# Altium schematic symbol library dungvh03-CERN_Connectors.SchLib: 576 symbols (part 4 of 8)
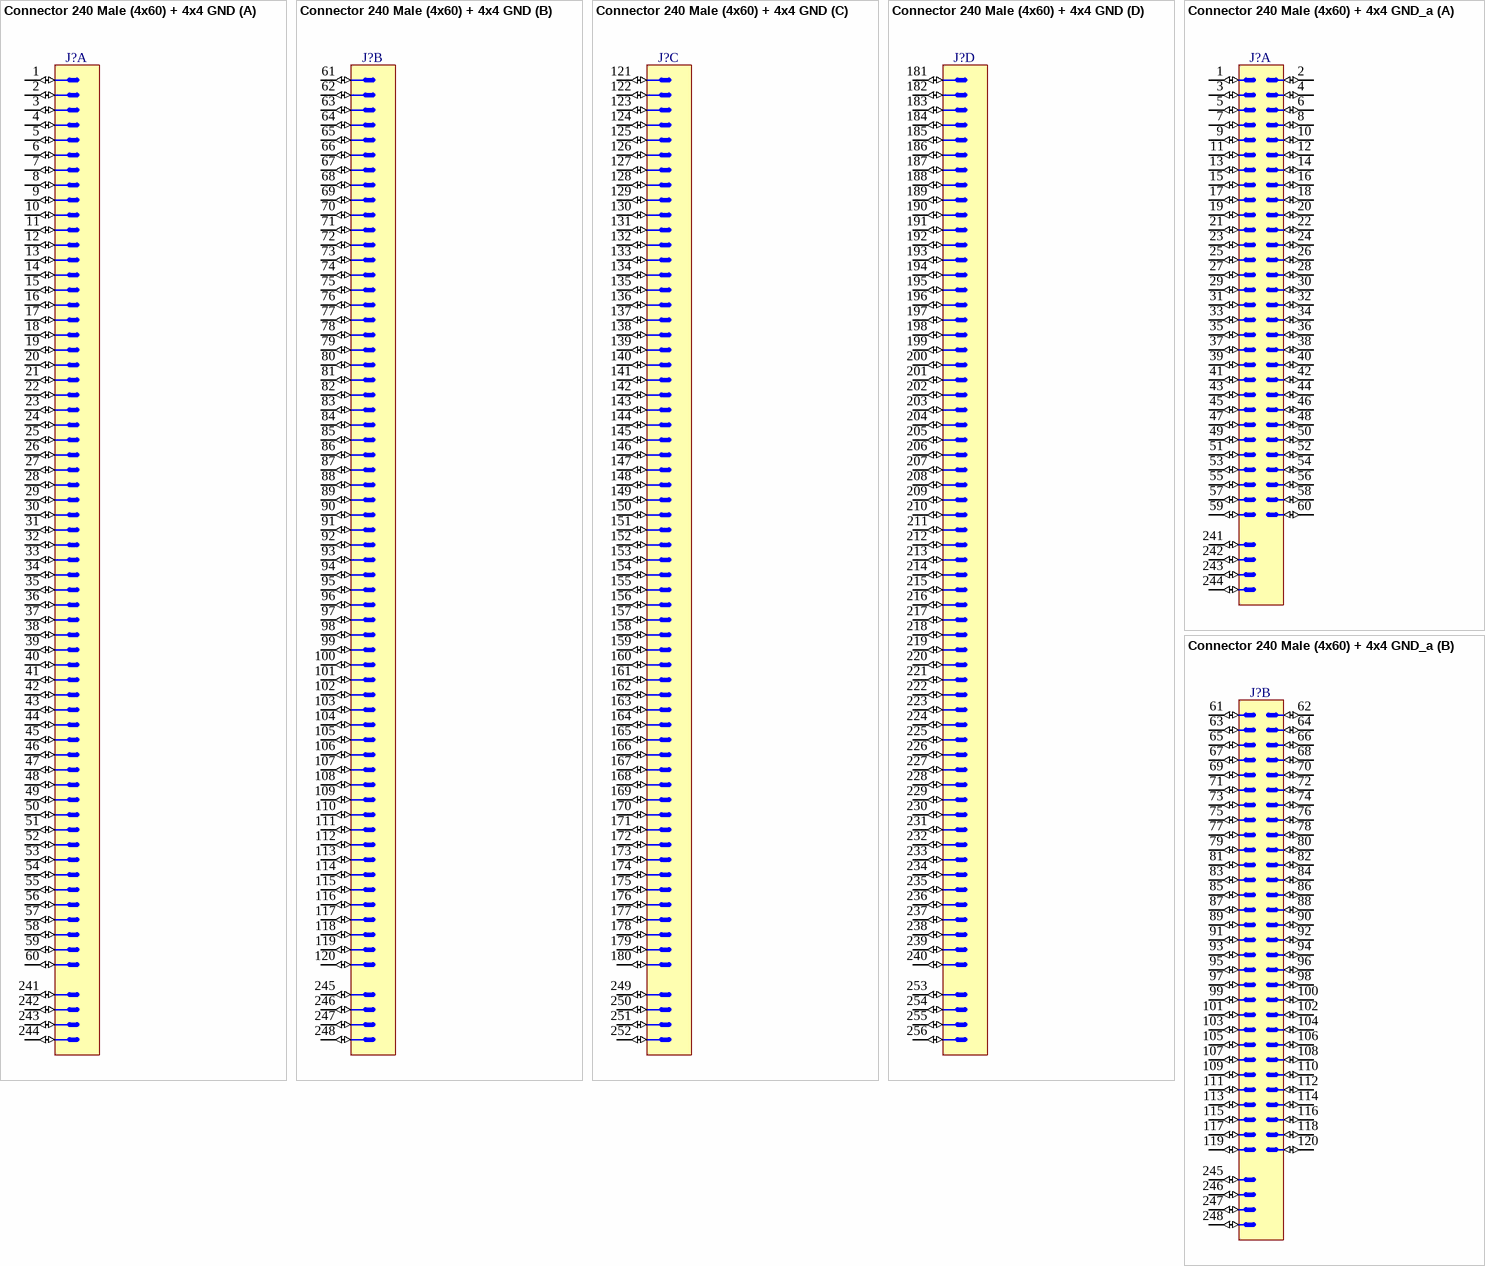
[diagram p78: symbols Connector 240 Male (4x60) + 4x4 GND to Connector 240 Male (4x60) + 4x4 GND_a]

## Connector 240 Male (4x60) + 4x4 GND
designator J?
Connector 240 Male (4x60) + 4x4 GND
part A pins: 1 (io), 2 (io), 3 (io), 4 (io), 5 (io), 6 (io), 7 (io), 8 (io), 9 (io), 10 (io), 11 (io), 12 (io), 13 (io), 14 (io), 15 (io), 16 (io), 17 (io), 18 (io), 19 (io), 20 (io), 21 (io), 22 (io), 23 (io), 24 (io), 25 (io), 26 (io), 27 (io), 28 (io), 29 (io), 30 (io), 31 (io), 32 (io), 33 (io), 34 (io), 35 (io), 36 (io), 37 (io), 38 (io), 39 (io), 40 (io), 41 (io), 42 (io), 43 (io), 44 (io), 45 (io), 46 (io), 47 (io), 48 (io), 49 (io), 50 (io), 51 (io), 52 (io), 53 (io), 54 (io), 55 (io), 56 (io), 57 (io), 58 (io), 59 (io), 60 (io), 241 (io), 242 (io), 243 (io), 244 (io)
part B pins: 61 (io), 62 (io), 63 (io), 64 (io), 65 (io), 66 (io), 67 (io), 68 (io), 69 (io), 70 (io), 71 (io), 72 (io), 73 (io), 74 (io), 75 (io), 76 (io), 77 (io), 78 (io), 79 (io), 80 (io), 81 (io), 82 (io), 83 (io), 84 (io), 85 (io), 86 (io), 87 (io), 88 (io), 89 (io), 90 (io), 91 (io), 92 (io), 93 (io), 94 (io), 95 (io), 96 (io), 97 (io), 98 (io), 99 (io), 100 (io), 101 (io), 102 (io), 103 (io), 104 (io), 105 (io), 106 (io), 107 (io), 108 (io), 109 (io), 110 (io), 111 (io), 112 (io), 113 (io), 114 (io), 115 (io), 116 (io), 117 (io), 118 (io), 119 (io), 120 (io), 245 (io), 246 (io), 247 (io), 248 (io)
part C pins: 121 (io), 122 (io), 123 (io), 124 (io), 125 (io), 126 (io), 127 (io), 128 (io), 129 (io), 130 (io), 131 (io), 132 (io), 133 (io), 134 (io), 135 (io), 136 (io), 137 (io), 138 (io), 139 (io), 140 (io), 141 (io), 142 (io), 143 (io), 144 (io), 145 (io), 146 (io), 147 (io), 148 (io), 149 (io), 150 (io), 151 (io), 152 (io), 153 (io), 154 (io), 155 (io), 156 (io), 157 (io), 158 (io), 159 (io), 160 (io), 161 (io), 162 (io), 163 (io), 164 (io), 165 (io), 166 (io), 167 (io), 168 (io), 169 (io), 170 (io), 171 (io), 172 (io), 173 (io), 174 (io), 175 (io), 176 (io), 177 (io), 178 (io), 179 (io), 180 (io), 249 (io), 250 (io), 251 (io), 252 (io)
part D pins: 181 (io), 182 (io), 183 (io), 184 (io), 185 (io), 186 (io), 187 (io), 188 (io), 189 (io), 190 (io), 191 (io), 192 (io), 193 (io), 194 (io), 195 (io), 196 (io), 197 (io), 198 (io), 199 (io), 200 (io), 201 (io), 202 (io), 203 (io), 204 (io), 205 (io), 206 (io), 207 (io), 208 (io), 209 (io), 210 (io), 211 (io), 212 (io), 213 (io), 214 (io), 215 (io), 216 (io), 217 (io), 218 (io), 219 (io), 220 (io), 221 (io), 222 (io), 223 (io), 224 (io), 225 (io), 226 (io), 227 (io), 228 (io), 229 (io), 230 (io), 231 (io), 232 (io), 233 (io), 234 (io), 235 (io), 236 (io), 237 (io), 238 (io), 239 (io), 240 (io), 253 (io), 254 (io), 255 (io), 256 (io)

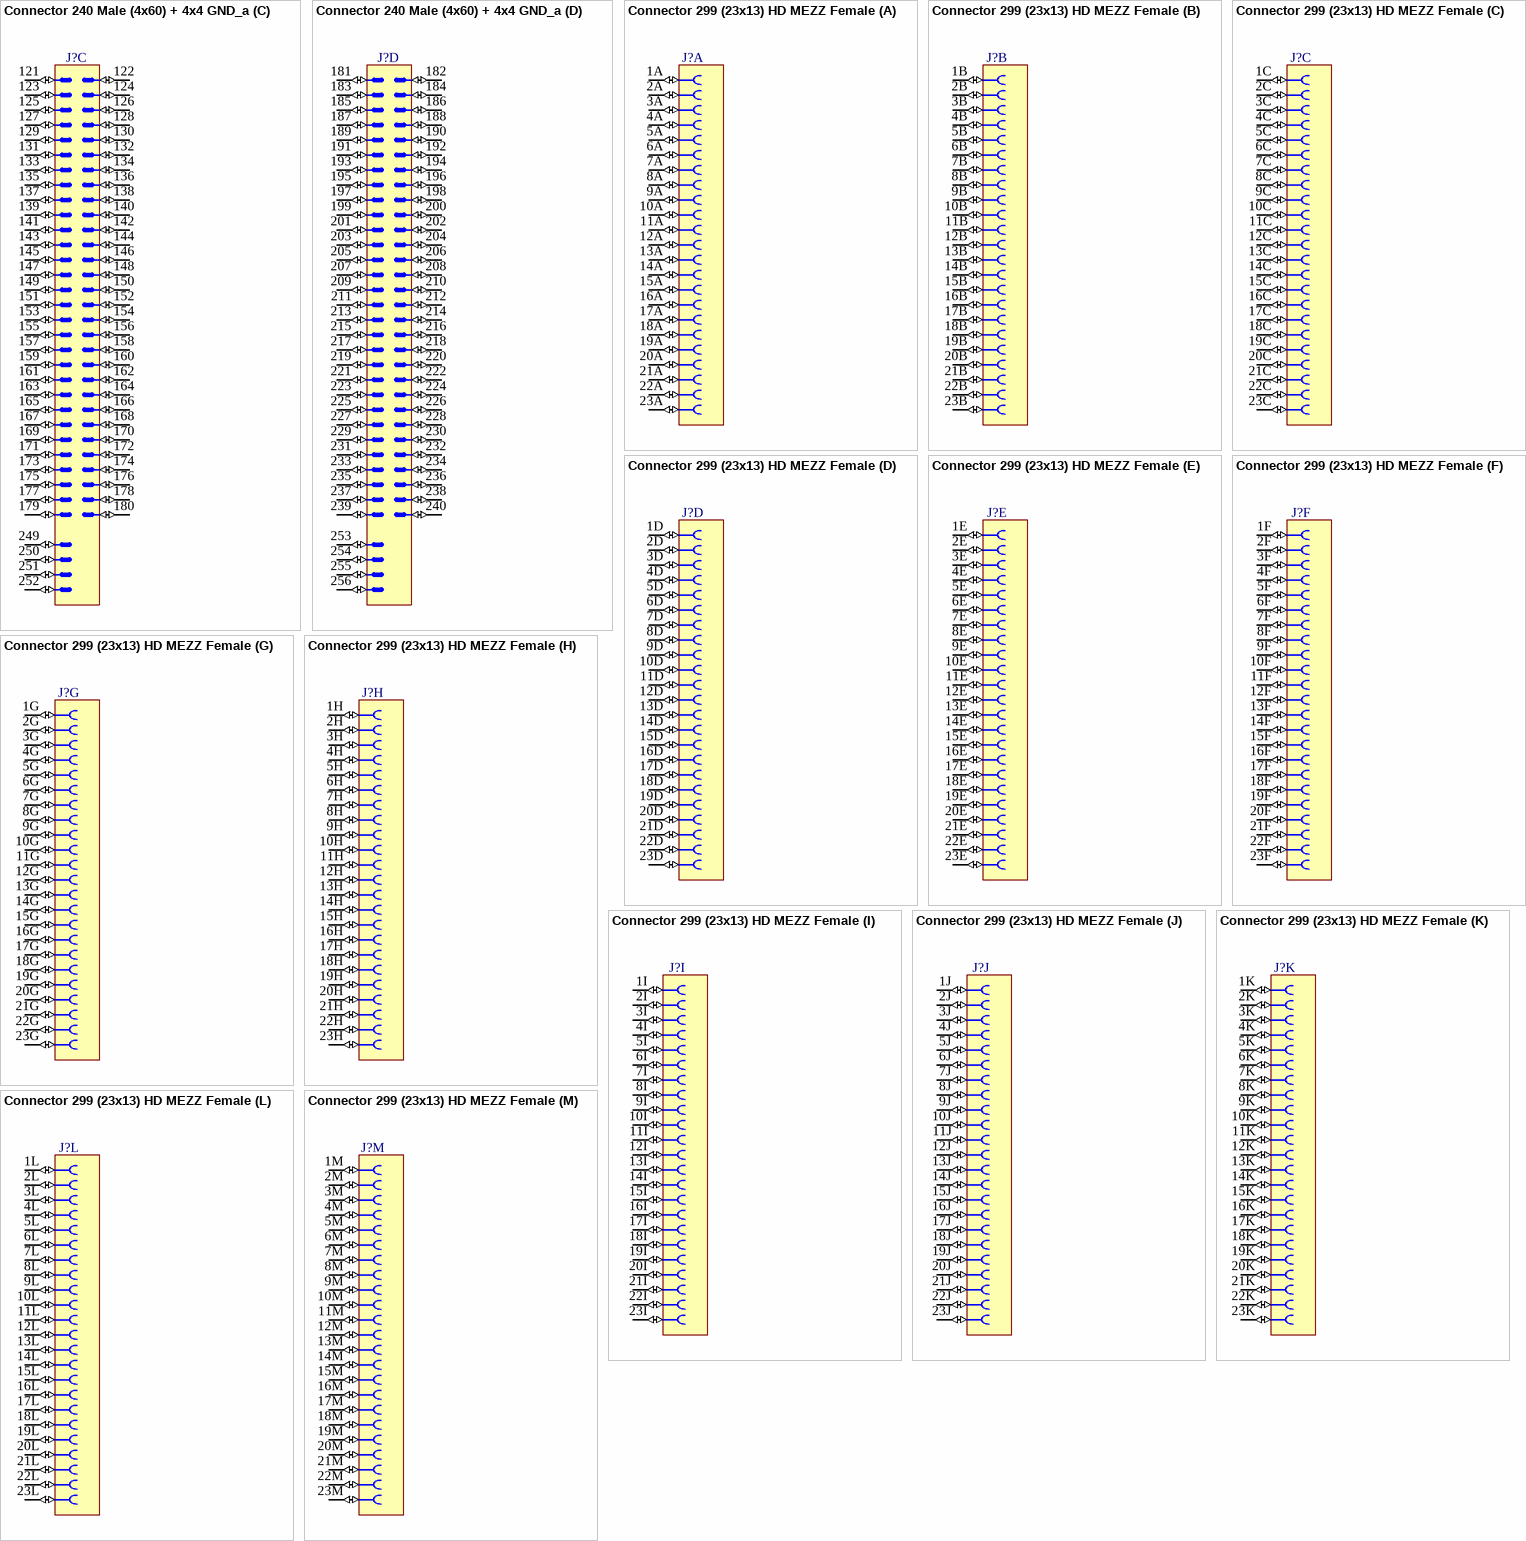
[diagram p33: symbols Connector 240 Male (4x60) + 4x4 GND_a to Connector 299 (23x13) HD MEZZ Female]

## Connector 240 Male (4x60) + 4x4 GND_a
designator J?
Connector 240 Male (4x60) + 4x4 GND
part A pins: 1 (io), 2 (io), 3 (io), 4 (io), 5 (io), 6 (io), 7 (io), 8 (io), 9 (io), 10 (io), 11 (io), 12 (io), 13 (io), 14 (io), 15 (io), 16 (io), 17 (io), 18 (io), 19 (io), 20 (io), 21 (io), 22 (io), 23 (io), 24 (io), 25 (io), 26 (io), 27 (io), 28 (io), 29 (io), 30 (io), 31 (io), 32 (io), 33 (io), 34 (io), 35 (io), 36 (io), 37 (io), 38 (io), 39 (io), 40 (io), 41 (io), 42 (io), 43 (io), 44 (io), 45 (io), 46 (io), 47 (io), 48 (io), 49 (io), 50 (io), 51 (io), 52 (io), 53 (io), 54 (io), 55 (io), 56 (io), 57 (io), 58 (io), 59 (io), 60 (io), 241 (io), 242 (io), 243 (io), 244 (io)
part B pins: 61 (io), 62 (io), 63 (io), 64 (io), 65 (io), 66 (io), 67 (io), 68 (io), 69 (io), 70 (io), 71 (io), 72 (io), 73 (io), 74 (io), 75 (io), 76 (io), 77 (io), 78 (io), 79 (io), 80 (io), 81 (io), 82 (io), 83 (io), 84 (io), 85 (io), 86 (io), 87 (io), 88 (io), 89 (io), 90 (io), 91 (io), 92 (io), 93 (io), 94 (io), 95 (io), 96 (io), 97 (io), 98 (io), 99 (io), 100 (io), 101 (io), 102 (io), 103 (io), 104 (io), 105 (io), 106 (io), 107 (io), 108 (io), 109 (io), 110 (io), 111 (io), 112 (io), 113 (io), 114 (io), 115 (io), 116 (io), 117 (io), 118 (io), 119 (io), 120 (io), 245 (io), 246 (io), 247 (io), 248 (io)
part C pins: 121 (io), 122 (io), 123 (io), 124 (io), 125 (io), 126 (io), 127 (io), 128 (io), 129 (io), 130 (io), 131 (io), 132 (io), 133 (io), 134 (io), 135 (io), 136 (io), 137 (io), 138 (io), 139 (io), 140 (io), 141 (io), 142 (io), 143 (io), 144 (io), 145 (io), 146 (io), 147 (io), 148 (io), 149 (io), 150 (io), 151 (io), 152 (io), 153 (io), 154 (io), 155 (io), 156 (io), 157 (io), 158 (io), 159 (io), 160 (io), 161 (io), 162 (io), 163 (io), 164 (io), 165 (io), 166 (io), 167 (io), 168 (io), 169 (io), 170 (io), 171 (io), 172 (io), 173 (io), 174 (io), 175 (io), 176 (io), 177 (io), 178 (io), 179 (io), 180 (io), 249 (io), 250 (io), 251 (io), 252 (io)
part D pins: 181 (io), 182 (io), 183 (io), 184 (io), 185 (io), 186 (io), 187 (io), 188 (io), 189 (io), 190 (io), 191 (io), 192 (io), 193 (io), 194 (io), 195 (io), 196 (io), 197 (io), 198 (io), 199 (io), 200 (io), 201 (io), 202 (io), 203 (io), 204 (io), 205 (io), 206 (io), 207 (io), 208 (io), 209 (io), 210 (io), 211 (io), 212 (io), 213 (io), 214 (io), 215 (io), 216 (io), 217 (io), 218 (io), 219 (io), 220 (io), 221 (io), 222 (io), 223 (io), 224 (io), 225 (io), 226 (io), 227 (io), 228 (io), 229 (io), 230 (io), 231 (io), 232 (io), 233 (io), 234 (io), 235 (io), 236 (io), 237 (io), 238 (io), 239 (io), 240 (io), 253 (io), 254 (io), 255 (io), 256 (io)

## Connector 299 (23x13) HD MEZZ Female
designator J?
299 Contacts (23 Row  x 13 Column (A to M) HD MEZZ Female Connector
part A pins: 1A (io), 2A (io), 3A (io), 4A (io), 5A (io), 6A (io), 7A (io), 8A (io), 9A (io), 10A (io), 11A (io), 12A (io), 13A (io), 14A (io), 15A (io), 16A (io), 17A (io), 18A (io), 19A (io), 20A (io), 21A (io), 22A (io), 23A (io)
part B pins: 1B (io), 2B (io), 3B (io), 4B (io), 5B (io), 6B (io), 7B (io), 8B (io), 9B (io), 10B (io), 11B (io), 12B (io), 13B (io), 14B (io), 15B (io), 16B (io), 17B (io), 18B (io), 19B (io), 20B (io), 21B (io), 22B (io), 23B (io)
part C pins: 1C (io), 2C (io), 3C (io), 4C (io), 5C (io), 6C (io), 7C (io), 8C (io), 9C (io), 10C (io), 11C (io), 12C (io), 13C (io), 14C (io), 15C (io), 16C (io), 17C (io), 18C (io), 19C (io), 20C (io), 21C (io), 22C (io), 23C (io)
part D pins: 1D (io), 2D (io), 3D (io), 4D (io), 5D (io), 6D (io), 7D (io), 8D (io), 9D (io), 10D (io), 11D (io), 12D (io), 13D (io), 14D (io), 15D (io), 16D (io), 17D (io), 18D (io), 19D (io), 20D (io), 21D (io), 22D (io), 23D (io)
part E pins: 1E (io), 2E (io), 3E (io), 4E (io), 5E (io), 6E (io), 7E (io), 8E (io), 9E (io), 10E (io), 11E (io), 12E (io), 13E (io), 14E (io), 15E (io), 16E (io), 17E (io), 18E (io), 19E (io), 20E (io), 21E (io), 22E (io), 23E (io)
part F pins: 1F (io), 2F (io), 3F (io), 4F (io), 5F (io), 6F (io), 7F (io), 8F (io), 9F (io), 10F (io), 11F (io), 12F (io), 13F (io), 14F (io), 15F (io), 16F (io), 17F (io), 18F (io), 19F (io), 20F (io), 21F (io), 22F (io), 23F (io)
part G pins: 1G (io), 2G (io), 3G (io), 4G (io), 5G (io), 6G (io), 7G (io), 8G (io), 9G (io), 10G (io), 11G (io), 12G (io), 13G (io), 14G (io), 15G (io), 16G (io), 17G (io), 18G (io), 19G (io), 20G (io), 21G (io), 22G (io), 23G (io)
part H pins: 1H (io), 2H (io), 3H (io), 4H (io), 5H (io), 6H (io), 7H (io), 8H (io), 9H (io), 10H (io), 11H (io), 12H (io), 13H (io), 14H (io), 15H (io), 16H (io), 17H (io), 18H (io), 19H (io), 20H (io), 21H (io), 22H (io), 23H (io)
part I pins: 1I (io), 2I (io), 3I (io), 4I (io), 5I (io), 6I (io), 7I (io), 8I (io), 9I (io), 10I (io), 11I (io), 12I (io), 13I (io), 14I (io), 15I (io), 16I (io), 17I (io), 18I (io), 19I (io), 20I (io), 21I (io), 22I (io), 23I (io)
part J pins: 1J (io), 2J (io), 3J (io), 4J (io), 5J (io), 6J (io), 7J (io), 8J (io), 9J (io), 10J (io), 11J (io), 12J (io), 13J (io), 14J (io), 15J (io), 16J (io), 17J (io), 18J (io), 19J (io), 20J (io), 21J (io), 22J (io), 23J (io)
part K pins: 1K (io), 2K (io), 3K (io), 4K (io), 5K (io), 6K (io), 7K (io), 8K (io), 9K (io), 10K (io), 11K (io), 12K (io), 13K (io), 14K (io), 15K (io), 16K (io), 17K (io), 18K (io), 19K (io), 20K (io), 21K (io), 22K (io), 23K (io)
part L pins: 1L (io), 2L (io), 3L (io), 4L (io), 5L (io), 6L (io), 7L (io), 8L (io), 9L (io), 10L (io), 11L (io), 12L (io), 13L (io), 14L (io), 15L (io), 16L (io), 17L (io), 18L (io), 19L (io), 20L (io), 21L (io), 22L (io), 23L (io)
part M pins: 1M (io), 2M (io), 3M (io), 4M (io), 5M (io), 6M (io), 7M (io), 8M (io), 9M (io), 10M (io), 11M (io), 12M (io), 13M (io), 14M (io), 15M (io), 16M (io), 17M (io), 18M (io), 19M (io), 20M (io), 21M (io), 22M (io), 23M (io)

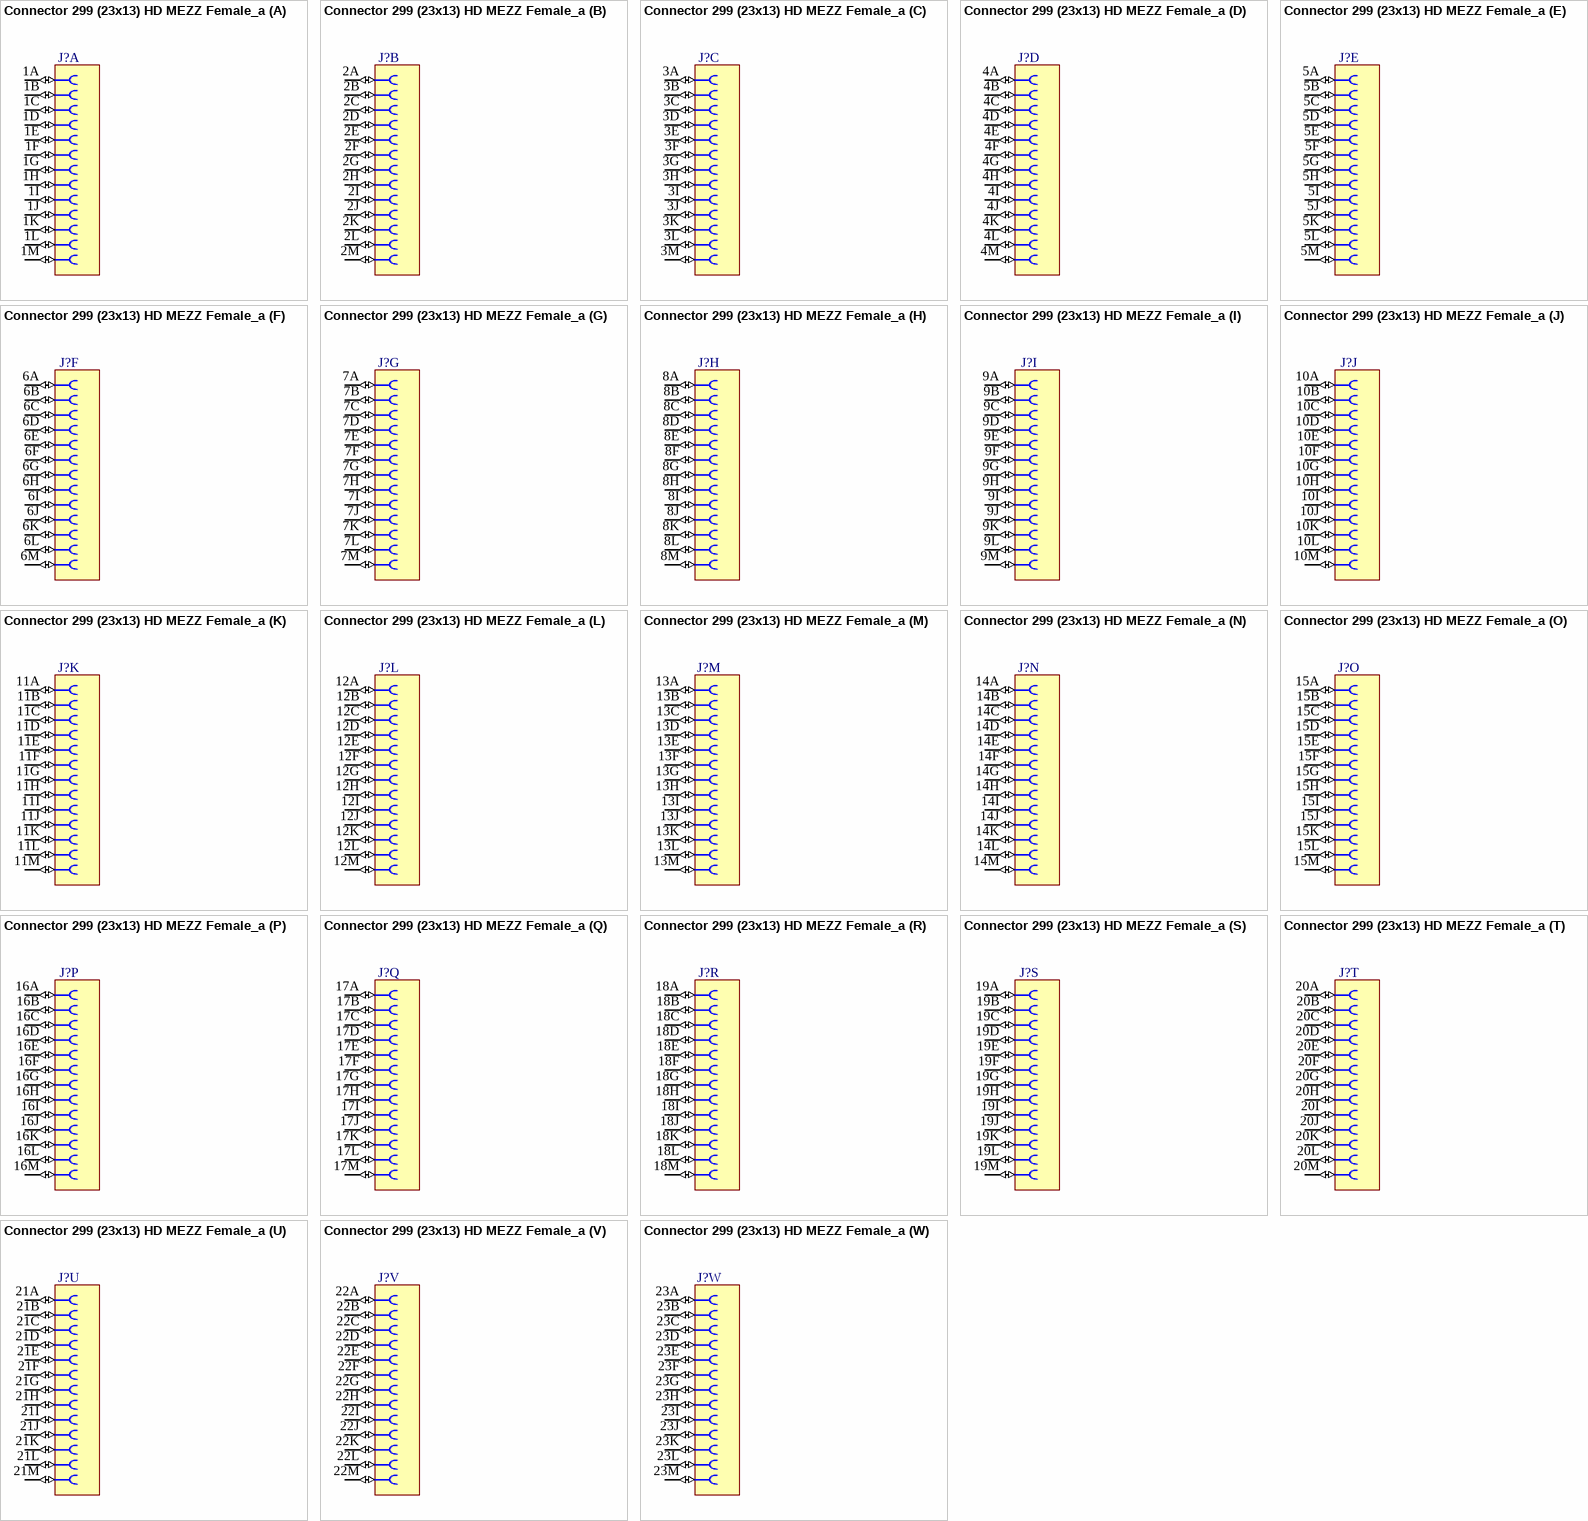
[diagram p34: symbol Connector 299 (23x13) HD MEZZ Female_a]

## Connector 299 (23x13) HD MEZZ Female_a
designator J?
299 Contacts (23 Row  x 13 Column (A to M) HD MEZZ Female Connector
part A pins: 1A (io), 1B (io), 1C (io), 1D (io), 1E (io), 1F (io), 1G (io), 1H (io), 1I (io), 1J (io), 1K (io), 1L (io), 1M (io)
part B pins: 2A (io), 2B (io), 2C (io), 2D (io), 2E (io), 2F (io), 2G (io), 2H (io), 2I (io), 2J (io), 2K (io), 2L (io), 2M (io)
part C pins: 3A (io), 3B (io), 3C (io), 3D (io), 3E (io), 3F (io), 3G (io), 3H (io), 3I (io), 3J (io), 3K (io), 3L (io), 3M (io)
part D pins: 4A (io), 4B (io), 4C (io), 4D (io), 4E (io), 4F (io), 4G (io), 4H (io), 4I (io), 4J (io), 4K (io), 4L (io), 4M (io)
part E pins: 5A (io), 5B (io), 5C (io), 5D (io), 5E (io), 5F (io), 5G (io), 5H (io), 5I (io), 5J (io), 5K (io), 5L (io), 5M (io)
part F pins: 6A (io), 6B (io), 6C (io), 6D (io), 6E (io), 6F (io), 6G (io), 6H (io), 6I (io), 6J (io), 6K (io), 6L (io), 6M (io)
part G pins: 7A (io), 7B (io), 7C (io), 7D (io), 7E (io), 7F (io), 7G (io), 7H (io), 7I (io), 7J (io), 7K (io), 7L (io), 7M (io)
part H pins: 8A (io), 8B (io), 8C (io), 8D (io), 8E (io), 8F (io), 8G (io), 8H (io), 8I (io), 8J (io), 8K (io), 8L (io), 8M (io)
part I pins: 9A (io), 9B (io), 9C (io), 9D (io), 9E (io), 9F (io), 9G (io), 9H (io), 9I (io), 9J (io), 9K (io), 9L (io), 9M (io)
part J pins: 10A (io), 10B (io), 10C (io), 10D (io), 10E (io), 10F (io), 10G (io), 10H (io), 10I (io), 10J (io), 10K (io), 10L (io), 10M (io)
part K pins: 11A (io), 11B (io), 11C (io), 11D (io), 11E (io), 11F (io), 11G (io), 11H (io), 11I (io), 11J (io), 11K (io), 11L (io), 11M (io)
part L pins: 12A (io), 12B (io), 12C (io), 12D (io), 12E (io), 12F (io), 12G (io), 12H (io), 12I (io), 12J (io), 12K (io), 12L (io), 12M (io)
part M pins: 13A (io), 13B (io), 13C (io), 13D (io), 13E (io), 13F (io), 13G (io), 13H (io), 13I (io), 13J (io), 13K (io), 13L (io), 13M (io)
part N pins: 14A (io), 14B (io), 14C (io), 14D (io), 14E (io), 14F (io), 14G (io), 14H (io), 14I (io), 14J (io), 14K (io), 14L (io), 14M (io)
part O pins: 15A (io), 15B (io), 15C (io), 15D (io), 15E (io), 15F (io), 15G (io), 15H (io), 15I (io), 15J (io), 15K (io), 15L (io), 15M (io)
part P pins: 16A (io), 16B (io), 16C (io), 16D (io), 16E (io), 16F (io), 16G (io), 16H (io), 16I (io), 16J (io), 16K (io), 16L (io), 16M (io)
part Q pins: 17A (io), 17B (io), 17C (io), 17D (io), 17E (io), 17F (io), 17G (io), 17H (io), 17I (io), 17J (io), 17K (io), 17L (io), 17M (io)
part R pins: 18A (io), 18B (io), 18C (io), 18D (io), 18E (io), 18F (io), 18G (io), 18H (io), 18I (io), 18J (io), 18K (io), 18L (io), 18M (io)
part S pins: 19A (io), 19B (io), 19C (io), 19D (io), 19E (io), 19F (io), 19G (io), 19H (io), 19I (io), 19J (io), 19K (io), 19L (io), 19M (io)
part T pins: 20A (io), 20B (io), 20C (io), 20D (io), 20E (io), 20F (io), 20G (io), 20H (io), 20I (io), 20J (io), 20K (io), 20L (io), 20M (io)
part U pins: 21A (io), 21B (io), 21C (io), 21D (io), 21E (io), 21F (io), 21G (io), 21H (io), 21I (io), 21J (io), 21K (io), 21L (io), 21M (io)
part V pins: 22A (io), 22B (io), 22C (io), 22D (io), 22E (io), 22F (io), 22G (io), 22H (io), 22I (io), 22J (io), 22K (io), 22L (io), 22M (io)
part W pins: 23A (io), 23B (io), 23C (io), 23D (io), 23E (io), 23F (io), 23G (io), 23H (io), 23I (io), 23J (io), 23K (io), 23L (io), 23M (io)

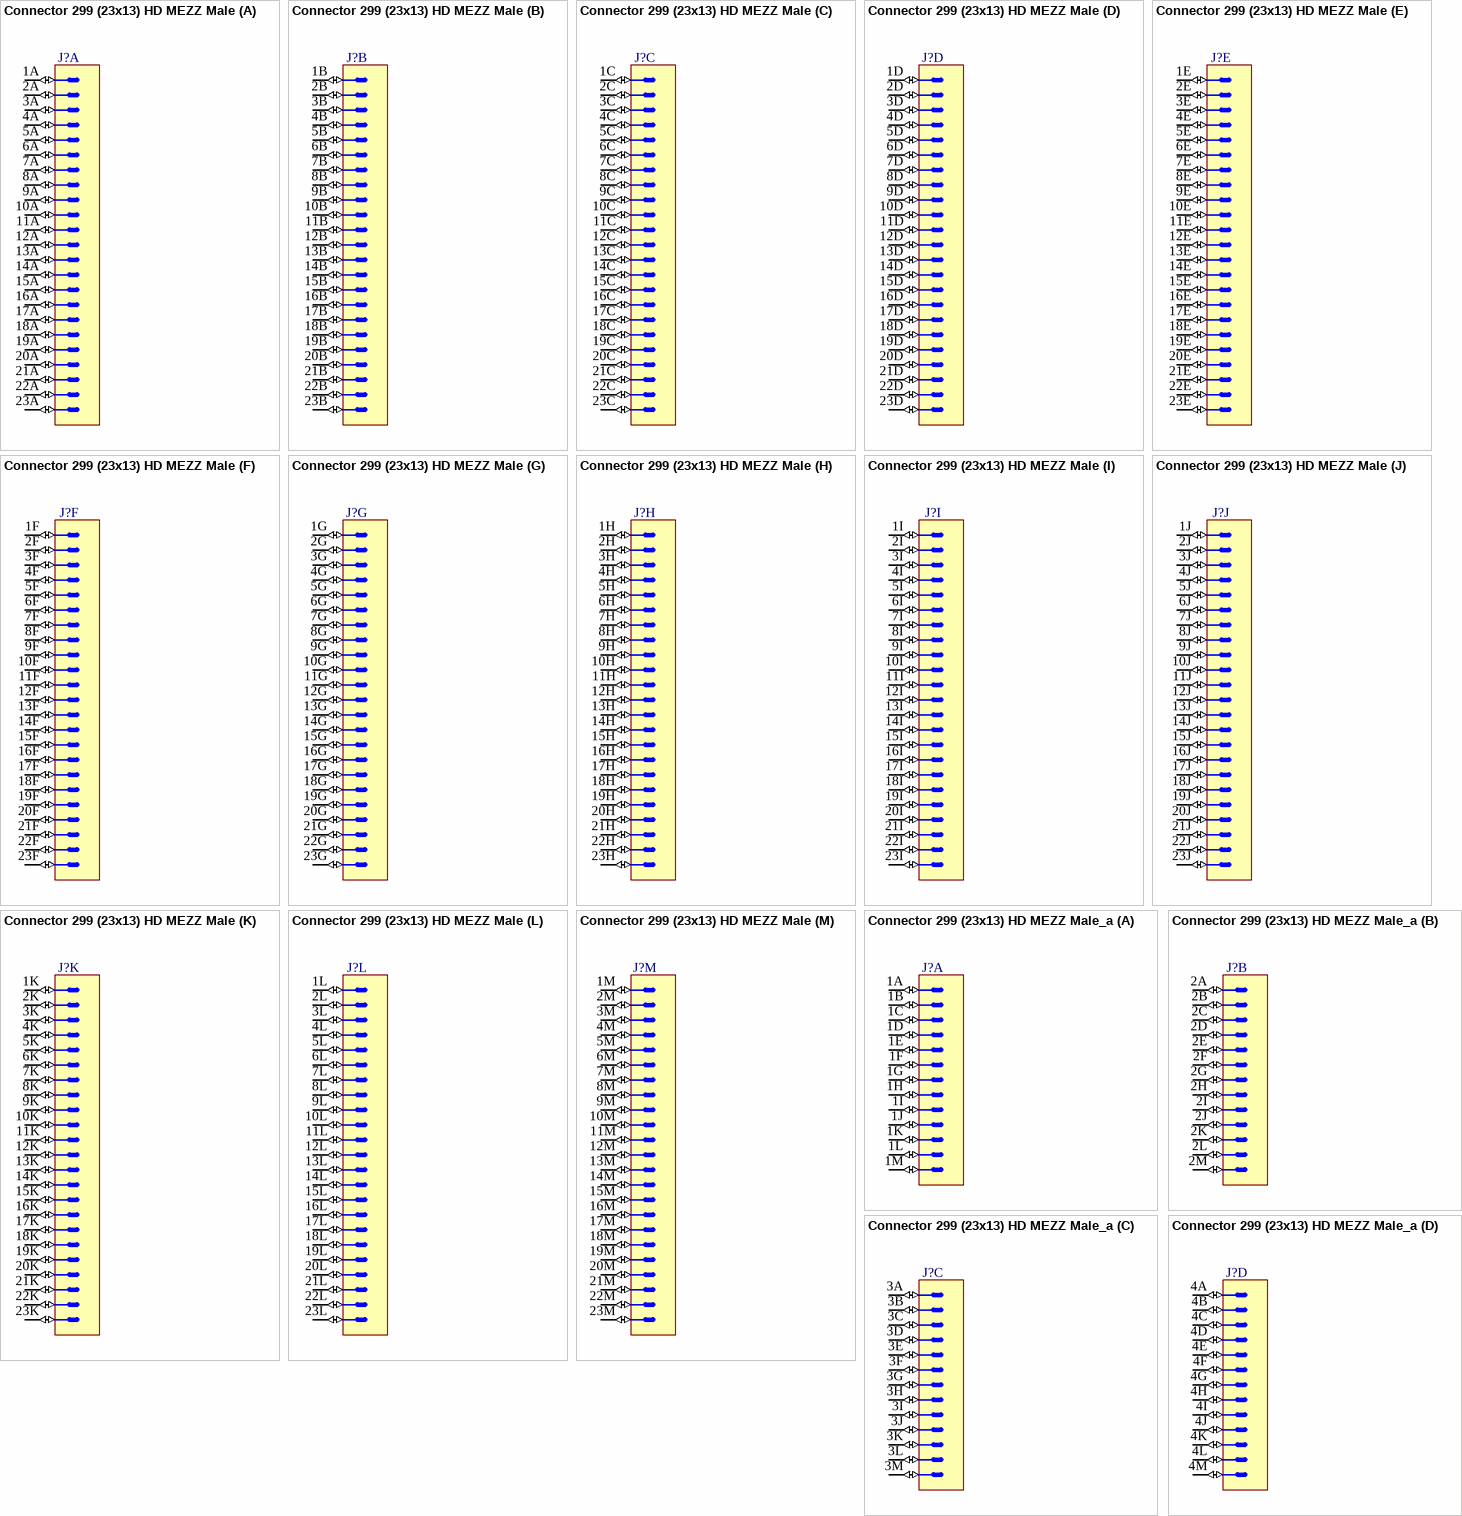
[diagram p35: symbols Connector 299 (23x13) HD MEZZ Male to Connector 299 (23x13) HD MEZZ Male_a]

## Connector 299 (23x13) HD MEZZ Male
designator J?
299 Contacts (23 Row  x 13 Column (A to M) HD MEZZ Male Connector
part A pins: 1A (io), 2A (io), 3A (io), 4A (io), 5A (io), 6A (io), 7A (io), 8A (io), 9A (io), 10A (io), 11A (io), 12A (io), 13A (io), 14A (io), 15A (io), 16A (io), 17A (io), 18A (io), 19A (io), 20A (io), 21A (io), 22A (io), 23A (io)
part B pins: 1B (io), 2B (io), 3B (io), 4B (io), 5B (io), 6B (io), 7B (io), 8B (io), 9B (io), 10B (io), 11B (io), 12B (io), 13B (io), 14B (io), 15B (io), 16B (io), 17B (io), 18B (io), 19B (io), 20B (io), 21B (io), 22B (io), 23B (io)
part C pins: 1C (io), 2C (io), 3C (io), 4C (io), 5C (io), 6C (io), 7C (io), 8C (io), 9C (io), 10C (io), 11C (io), 12C (io), 13C (io), 14C (io), 15C (io), 16C (io), 17C (io), 18C (io), 19C (io), 20C (io), 21C (io), 22C (io), 23C (io)
part D pins: 1D (io), 2D (io), 3D (io), 4D (io), 5D (io), 6D (io), 7D (io), 8D (io), 9D (io), 10D (io), 11D (io), 12D (io), 13D (io), 14D (io), 15D (io), 16D (io), 17D (io), 18D (io), 19D (io), 20D (io), 21D (io), 22D (io), 23D (io)
part E pins: 1E (io), 2E (io), 3E (io), 4E (io), 5E (io), 6E (io), 7E (io), 8E (io), 9E (io), 10E (io), 11E (io), 12E (io), 13E (io), 14E (io), 15E (io), 16E (io), 17E (io), 18E (io), 19E (io), 20E (io), 21E (io), 22E (io), 23E (io)
part F pins: 1F (io), 2F (io), 3F (io), 4F (io), 5F (io), 6F (io), 7F (io), 8F (io), 9F (io), 10F (io), 11F (io), 12F (io), 13F (io), 14F (io), 15F (io), 16F (io), 17F (io), 18F (io), 19F (io), 20F (io), 21F (io), 22F (io), 23F (io)
part G pins: 1G (io), 2G (io), 3G (io), 4G (io), 5G (io), 6G (io), 7G (io), 8G (io), 9G (io), 10G (io), 11G (io), 12G (io), 13G (io), 14G (io), 15G (io), 16G (io), 17G (io), 18G (io), 19G (io), 20G (io), 21G (io), 22G (io), 23G (io)
part H pins: 1H (io), 2H (io), 3H (io), 4H (io), 5H (io), 6H (io), 7H (io), 8H (io), 9H (io), 10H (io), 11H (io), 12H (io), 13H (io), 14H (io), 15H (io), 16H (io), 17H (io), 18H (io), 19H (io), 20H (io), 21H (io), 22H (io), 23H (io)
part I pins: 1I (io), 2I (io), 3I (io), 4I (io), 5I (io), 6I (io), 7I (io), 8I (io), 9I (io), 10I (io), 11I (io), 12I (io), 13I (io), 14I (io), 15I (io), 16I (io), 17I (io), 18I (io), 19I (io), 20I (io), 21I (io), 22I (io), 23I (io)
part J pins: 1J (io), 2J (io), 3J (io), 4J (io), 5J (io), 6J (io), 7J (io), 8J (io), 9J (io), 10J (io), 11J (io), 12J (io), 13J (io), 14J (io), 15J (io), 16J (io), 17J (io), 18J (io), 19J (io), 20J (io), 21J (io), 22J (io), 23J (io)
part K pins: 1K (io), 2K (io), 3K (io), 4K (io), 5K (io), 6K (io), 7K (io), 8K (io), 9K (io), 10K (io), 11K (io), 12K (io), 13K (io), 14K (io), 15K (io), 16K (io), 17K (io), 18K (io), 19K (io), 20K (io), 21K (io), 22K (io), 23K (io)
part L pins: 1L (io), 2L (io), 3L (io), 4L (io), 5L (io), 6L (io), 7L (io), 8L (io), 9L (io), 10L (io), 11L (io), 12L (io), 13L (io), 14L (io), 15L (io), 16L (io), 17L (io), 18L (io), 19L (io), 20L (io), 21L (io), 22L (io), 23L (io)
part M pins: 1M (io), 2M (io), 3M (io), 4M (io), 5M (io), 6M (io), 7M (io), 8M (io), 9M (io), 10M (io), 11M (io), 12M (io), 13M (io), 14M (io), 15M (io), 16M (io), 17M (io), 18M (io), 19M (io), 20M (io), 21M (io), 22M (io), 23M (io)

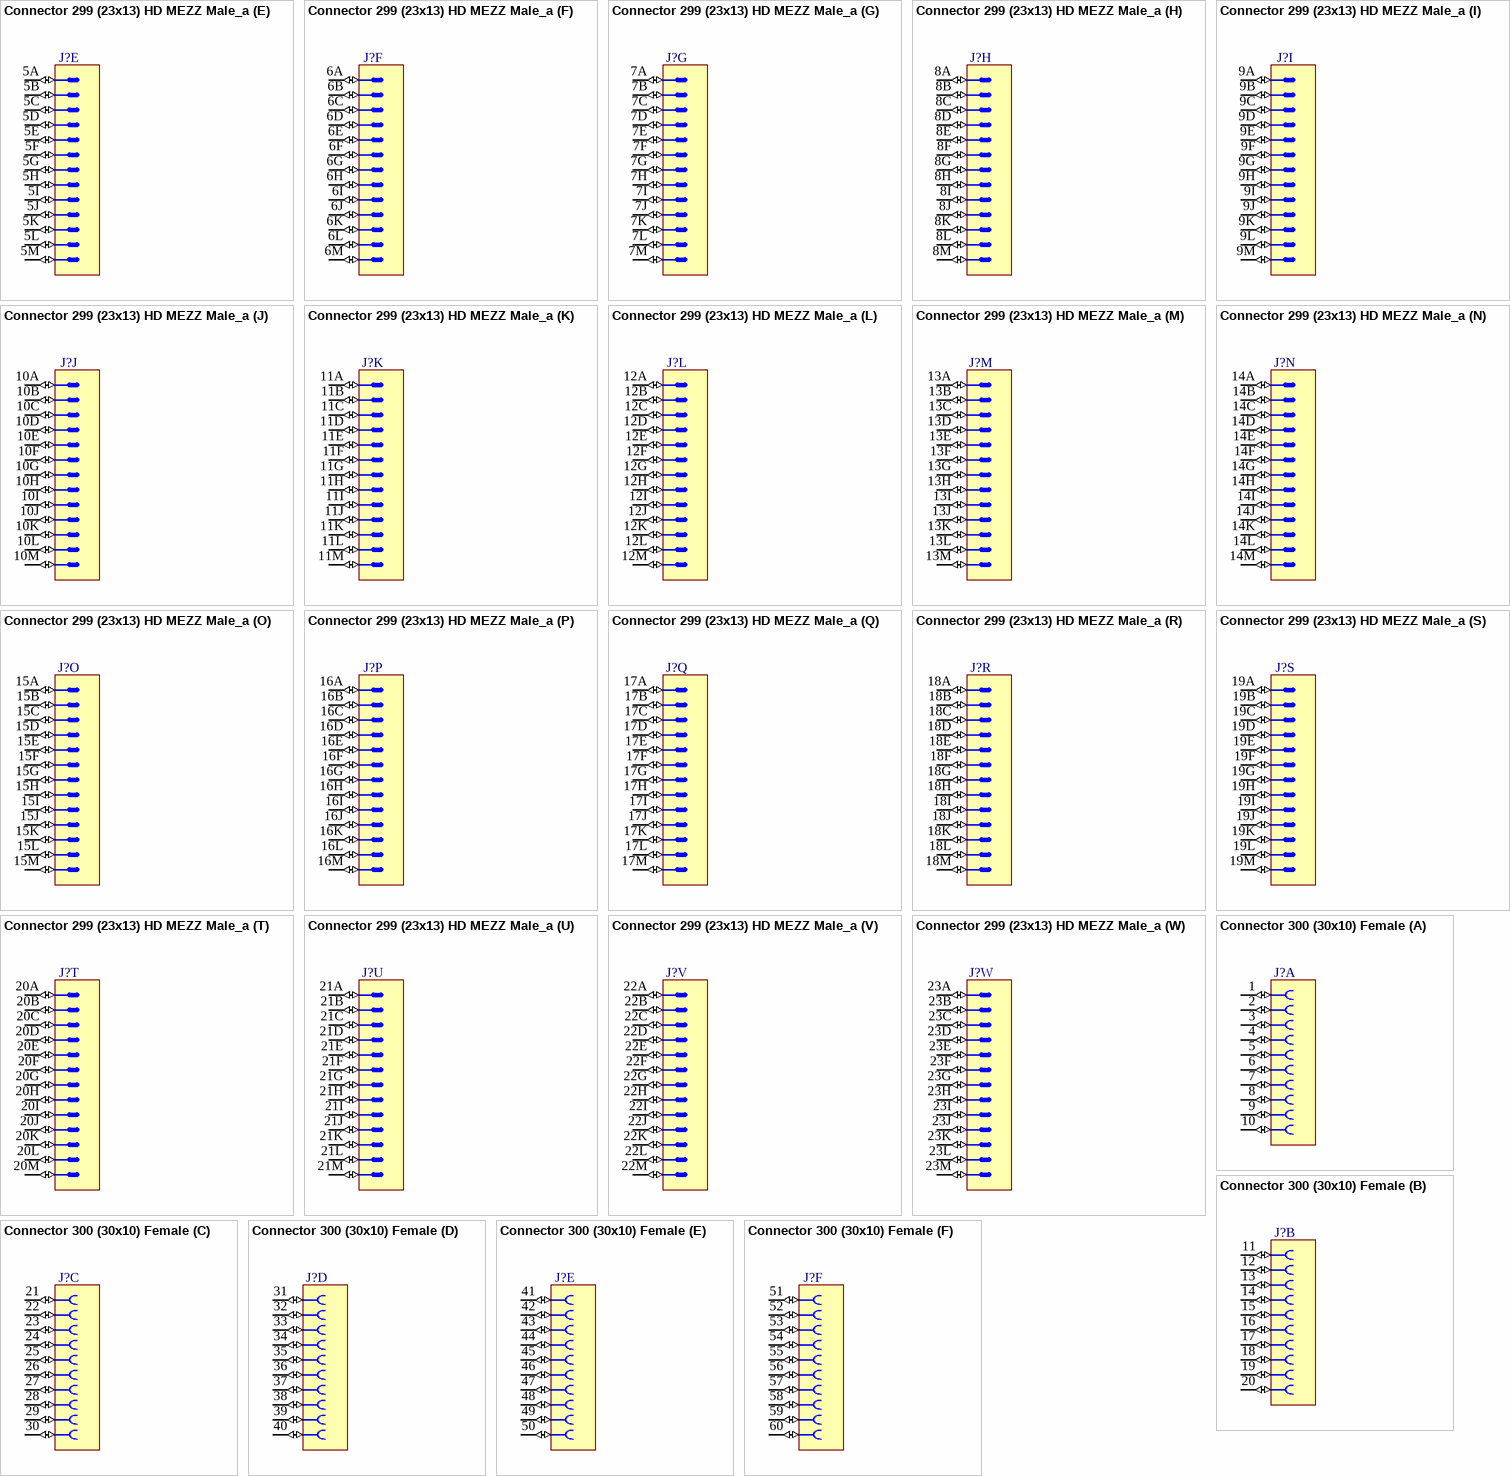
[diagram p36: symbols Connector 299 (23x13) HD MEZZ Male_a to Connector 300 (30x10) Female]

## Connector 299 (23x13) HD MEZZ Male_a
designator J?
299 Contacts (23 Row  x 13 Column (A to M) HD MEZZ Male Connector
part A pins: 1A (io), 1B (io), 1C (io), 1D (io), 1E (io), 1F (io), 1G (io), 1H (io), 1I (io), 1J (io), 1K (io), 1L (io), 1M (io)
part B pins: 2A (io), 2B (io), 2C (io), 2D (io), 2E (io), 2F (io), 2G (io), 2H (io), 2I (io), 2J (io), 2K (io), 2L (io), 2M (io)
part C pins: 3A (io), 3B (io), 3C (io), 3D (io), 3E (io), 3F (io), 3G (io), 3H (io), 3I (io), 3J (io), 3K (io), 3L (io), 3M (io)
part D pins: 4A (io), 4B (io), 4C (io), 4D (io), 4E (io), 4F (io), 4G (io), 4H (io), 4I (io), 4J (io), 4K (io), 4L (io), 4M (io)
part E pins: 5A (io), 5B (io), 5C (io), 5D (io), 5E (io), 5F (io), 5G (io), 5H (io), 5I (io), 5J (io), 5K (io), 5L (io), 5M (io)
part F pins: 6A (io), 6B (io), 6C (io), 6D (io), 6E (io), 6F (io), 6G (io), 6H (io), 6I (io), 6J (io), 6K (io), 6L (io), 6M (io)
part G pins: 7A (io), 7B (io), 7C (io), 7D (io), 7E (io), 7F (io), 7G (io), 7H (io), 7I (io), 7J (io), 7K (io), 7L (io), 7M (io)
part H pins: 8A (io), 8B (io), 8C (io), 8D (io), 8E (io), 8F (io), 8G (io), 8H (io), 8I (io), 8J (io), 8K (io), 8L (io), 8M (io)
part I pins: 9A (io), 9B (io), 9C (io), 9D (io), 9E (io), 9F (io), 9G (io), 9H (io), 9I (io), 9J (io), 9K (io), 9L (io), 9M (io)
part J pins: 10A (io), 10B (io), 10C (io), 10D (io), 10E (io), 10F (io), 10G (io), 10H (io), 10I (io), 10J (io), 10K (io), 10L (io), 10M (io)
part K pins: 11A (io), 11B (io), 11C (io), 11D (io), 11E (io), 11F (io), 11G (io), 11H (io), 11I (io), 11J (io), 11K (io), 11L (io), 11M (io)
part L pins: 12A (io), 12B (io), 12C (io), 12D (io), 12E (io), 12F (io), 12G (io), 12H (io), 12I (io), 12J (io), 12K (io), 12L (io), 12M (io)
part M pins: 13A (io), 13B (io), 13C (io), 13D (io), 13E (io), 13F (io), 13G (io), 13H (io), 13I (io), 13J (io), 13K (io), 13L (io), 13M (io)
part N pins: 14A (io), 14B (io), 14C (io), 14D (io), 14E (io), 14F (io), 14G (io), 14H (io), 14I (io), 14J (io), 14K (io), 14L (io), 14M (io)
part O pins: 15A (io), 15B (io), 15C (io), 15D (io), 15E (io), 15F (io), 15G (io), 15H (io), 15I (io), 15J (io), 15K (io), 15L (io), 15M (io)
part P pins: 16A (io), 16B (io), 16C (io), 16D (io), 16E (io), 16F (io), 16G (io), 16H (io), 16I (io), 16J (io), 16K (io), 16L (io), 16M (io)
part Q pins: 17A (io), 17B (io), 17C (io), 17D (io), 17E (io), 17F (io), 17G (io), 17H (io), 17I (io), 17J (io), 17K (io), 17L (io), 17M (io)
part R pins: 18A (io), 18B (io), 18C (io), 18D (io), 18E (io), 18F (io), 18G (io), 18H (io), 18I (io), 18J (io), 18K (io), 18L (io), 18M (io)
part S pins: 19A (io), 19B (io), 19C (io), 19D (io), 19E (io), 19F (io), 19G (io), 19H (io), 19I (io), 19J (io), 19K (io), 19L (io), 19M (io)
part T pins: 20A (io), 20B (io), 20C (io), 20D (io), 20E (io), 20F (io), 20G (io), 20H (io), 20I (io), 20J (io), 20K (io), 20L (io), 20M (io)
part U pins: 21A (io), 21B (io), 21C (io), 21D (io), 21E (io), 21F (io), 21G (io), 21H (io), 21I (io), 21J (io), 21K (io), 21L (io), 21M (io)
part V pins: 22A (io), 22B (io), 22C (io), 22D (io), 22E (io), 22F (io), 22G (io), 22H (io), 22I (io), 22J (io), 22K (io), 22L (io), 22M (io)
part W pins: 23A (io), 23B (io), 23C (io), 23D (io), 23E (io), 23F (io), 23G (io), 23H (io), 23I (io), 23J (io), 23K (io), 23L (io), 23M (io)

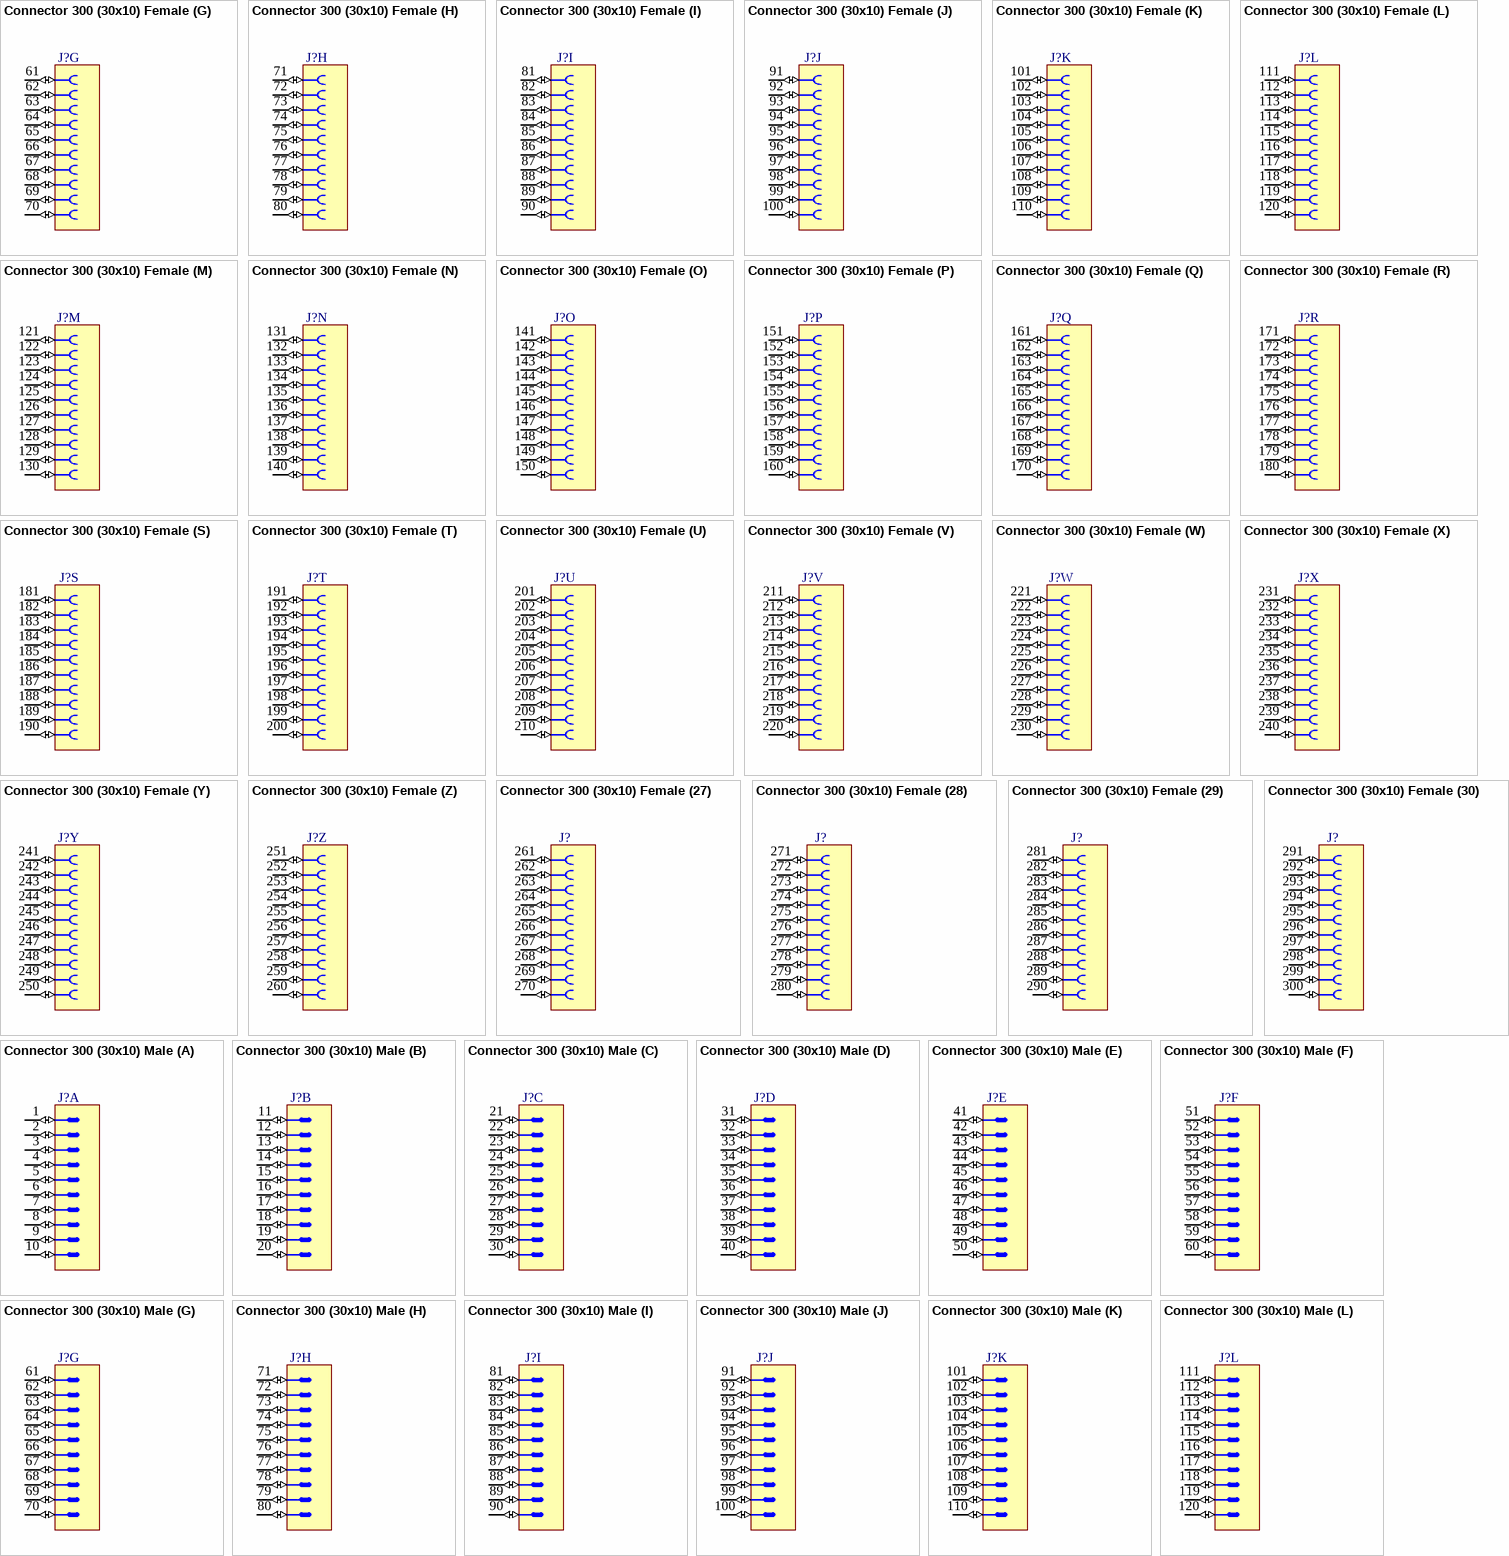
[diagram p37: symbols Connector 300 (30x10) Female to Connector 300 (30x10) Male]

## Connector 300 (30x10) Female
designator J?
300 Contacts (30 Columns x 10 Rows) Female Connector
part A pins: 1 (io), 2 (io), 3 (io), 4 (io), 5 (io), 6 (io), 7 (io), 8 (io), 9 (io), 10 (io)
part B pins: 11 (io), 12 (io), 13 (io), 14 (io), 15 (io), 16 (io), 17 (io), 18 (io), 19 (io), 20 (io)
part C pins: 21 (io), 22 (io), 23 (io), 24 (io), 25 (io), 26 (io), 27 (io), 28 (io), 29 (io), 30 (io)
part D pins: 31 (io), 32 (io), 33 (io), 34 (io), 35 (io), 36 (io), 37 (io), 38 (io), 39 (io), 40 (io)
part E pins: 41 (io), 42 (io), 43 (io), 44 (io), 45 (io), 46 (io), 47 (io), 48 (io), 49 (io), 50 (io)
part F pins: 51 (io), 52 (io), 53 (io), 54 (io), 55 (io), 56 (io), 57 (io), 58 (io), 59 (io), 60 (io)
part G pins: 61 (io), 62 (io), 63 (io), 64 (io), 65 (io), 66 (io), 67 (io), 68 (io), 69 (io), 70 (io)
part H pins: 71 (io), 72 (io), 73 (io), 74 (io), 75 (io), 76 (io), 77 (io), 78 (io), 79 (io), 80 (io)
part I pins: 81 (io), 82 (io), 83 (io), 84 (io), 85 (io), 86 (io), 87 (io), 88 (io), 89 (io), 90 (io)
part J pins: 91 (io), 92 (io), 93 (io), 94 (io), 95 (io), 96 (io), 97 (io), 98 (io), 99 (io), 100 (io)
part K pins: 101 (io), 102 (io), 103 (io), 104 (io), 105 (io), 106 (io), 107 (io), 108 (io), 109 (io), 110 (io)
part L pins: 111 (io), 112 (io), 113 (io), 114 (io), 115 (io), 116 (io), 117 (io), 118 (io), 119 (io), 120 (io)
part M pins: 121 (io), 122 (io), 123 (io), 124 (io), 125 (io), 126 (io), 127 (io), 128 (io), 129 (io), 130 (io)
part N pins: 131 (io), 132 (io), 133 (io), 134 (io), 135 (io), 136 (io), 137 (io), 138 (io), 139 (io), 140 (io)
part O pins: 141 (io), 142 (io), 143 (io), 144 (io), 145 (io), 146 (io), 147 (io), 148 (io), 149 (io), 150 (io)
part P pins: 151 (io), 152 (io), 153 (io), 154 (io), 155 (io), 156 (io), 157 (io), 158 (io), 159 (io), 160 (io)
part Q pins: 161 (io), 162 (io), 163 (io), 164 (io), 165 (io), 166 (io), 167 (io), 168 (io), 169 (io), 170 (io)
part R pins: 171 (io), 172 (io), 173 (io), 174 (io), 175 (io), 176 (io), 177 (io), 178 (io), 179 (io), 180 (io)
part S pins: 181 (io), 182 (io), 183 (io), 184 (io), 185 (io), 186 (io), 187 (io), 188 (io), 189 (io), 190 (io)
part T pins: 191 (io), 192 (io), 193 (io), 194 (io), 195 (io), 196 (io), 197 (io), 198 (io), 199 (io), 200 (io)
part U pins: 201 191 (io), 202 192 (io), 203 193 (io), 204 194 (io), 205 195 (io), 206 196 (io), 207 197 (io), 208 198 (io), 209 199 (io), 210 200 (io)
part V pins: 211 191 (io), 212 192 (io), 213 193 (io), 214 194 (io), 215 195 (io), 216 196 (io), 217 197 (io), 218 198 (io), 219 199 (io), 220 200 (io)
part W pins: 221 191 (io), 222 192 (io), 223 193 (io), 224 194 (io), 225 195 (io), 226 196 (io), 227 197 (io), 228 198 (io), 229 199 (io), 230 200 (io)
part X pins: 231 191 (io), 232 192 (io), 233 193 (io), 234 194 (io), 235 195 (io), 236 196 (io), 237 197 (io), 238 198 (io), 239 199 (io), 240 200 (io)
part Y pins: 241 191 (io), 242 192 (io), 243 193 (io), 244 194 (io), 245 195 (io), 246 196 (io), 247 197 (io), 248 198 (io), 249 199 (io), 250 200 (io)
part Z pins: 251 191 (io), 252 192 (io), 253 193 (io), 254 194 (io), 255 195 (io), 256 196 (io), 257 197 (io), 258 198 (io), 259 199 (io), 260 200 (io)
part 27 pins: 261 191 (io), 262 192 (io), 263 193 (io), 264 194 (io), 265 195 (io), 266 196 (io), 267 197 (io), 268 198 (io), 269 199 (io), 270 200 (io)
part 28 pins: 271 191 (io), 272 192 (io), 273 193 (io), 274 194 (io), 275 195 (io), 276 196 (io), 277 197 (io), 278 198 (io), 279 199 (io), 280 200 (io)
part 29 pins: 281 191 (io), 282 192 (io), 283 193 (io), 284 194 (io), 285 195 (io), 286 196 (io), 287 197 (io), 288 198 (io), 289 199 (io), 290 200 (io)
part 30 pins: 291 191 (io), 292 192 (io), 293 193 (io), 294 194 (io), 295 195 (io), 296 196 (io), 297 197 (io), 298 198 (io), 299 199 (io), 300 200 (io)

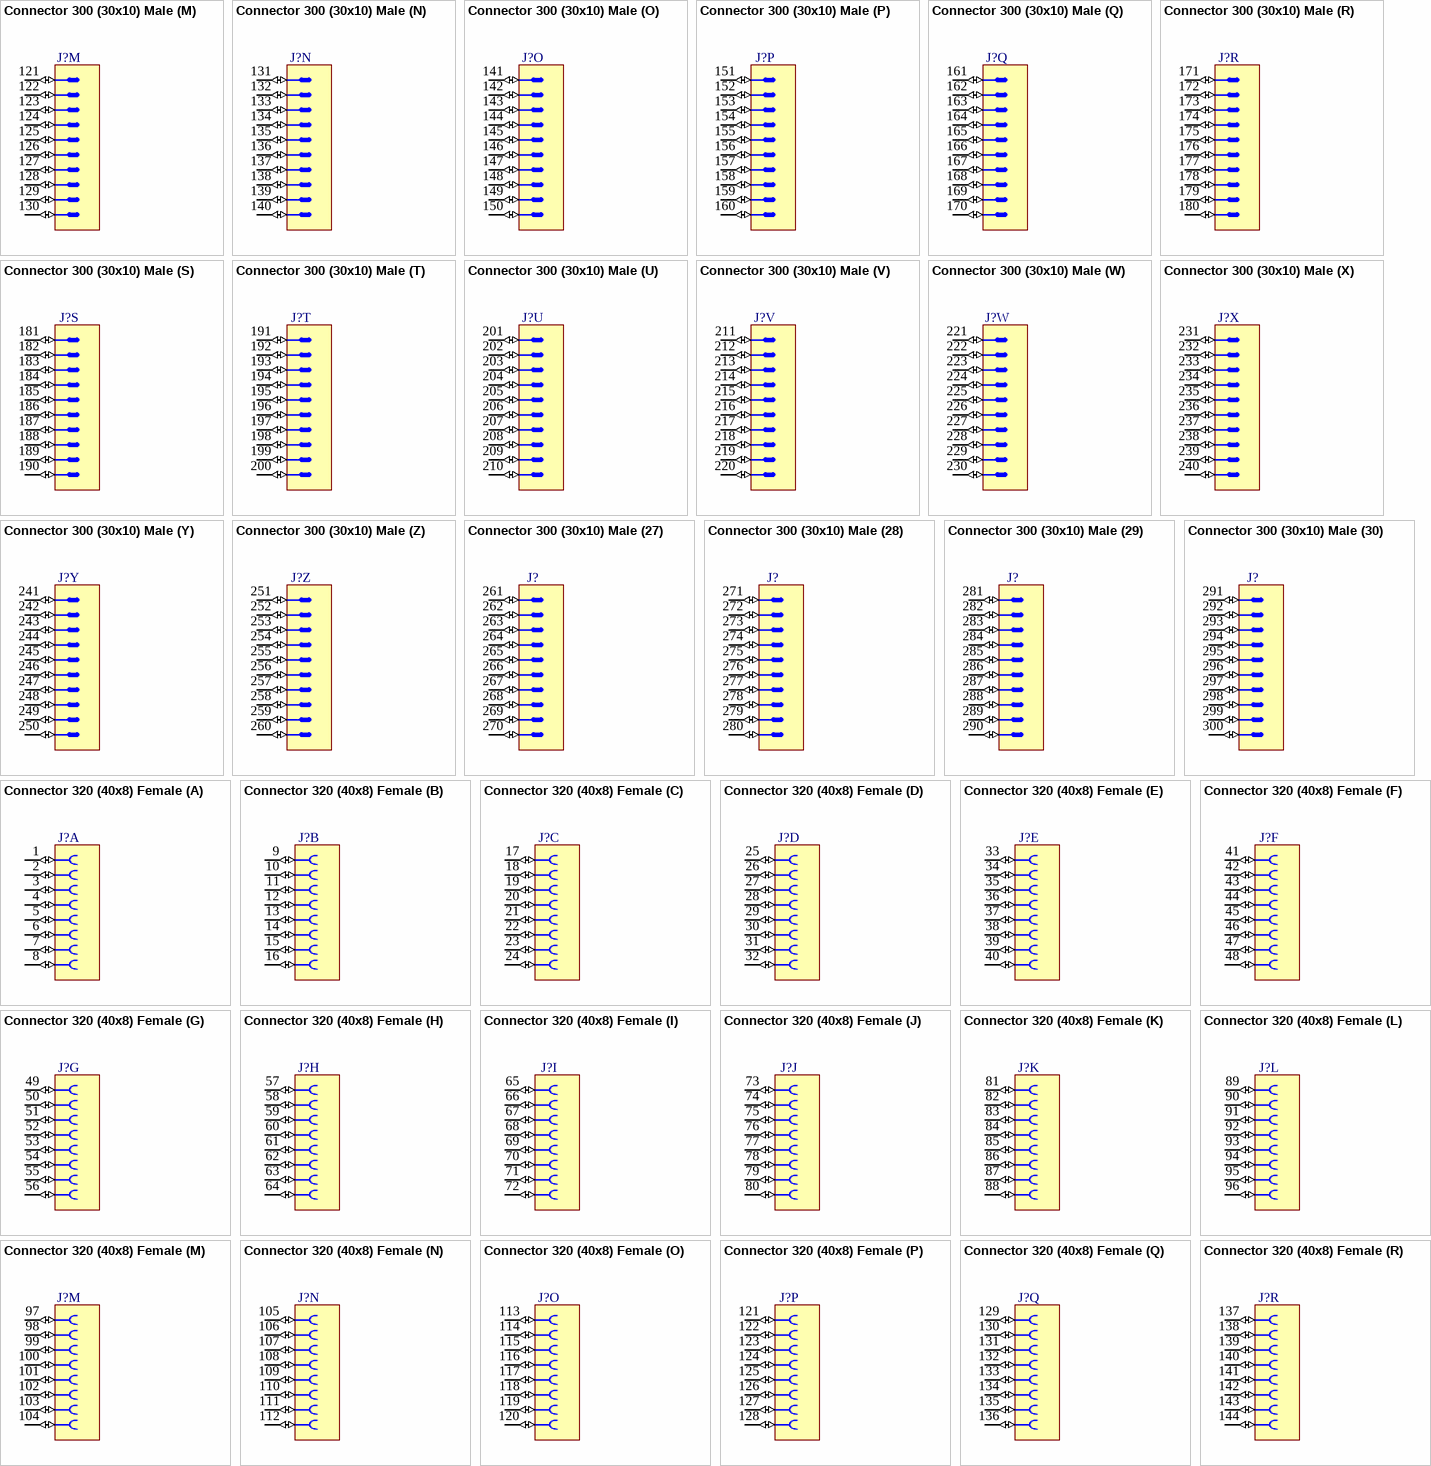
[diagram p38: symbols Connector 300 (30x10) Male to Connector 320 (40x8) Female]

## Connector 300 (30x10) Male
designator J?
300 Contacts (30 Columns x 10 Rows) Female Connector
part A pins: 1 (io), 2 (io), 3 (io), 4 (io), 5 (io), 6 (io), 7 (io), 8 (io), 9 (io), 10 (io)
part B pins: 11 (io), 12 (io), 13 (io), 14 (io), 15 (io), 16 (io), 17 (io), 18 (io), 19 (io), 20 (io)
part C pins: 21 (io), 22 (io), 23 (io), 24 (io), 25 (io), 26 (io), 27 (io), 28 (io), 29 (io), 30 (io)
part D pins: 31 (io), 32 (io), 33 (io), 34 (io), 35 (io), 36 (io), 37 (io), 38 (io), 39 (io), 40 (io)
part E pins: 41 (io), 42 (io), 43 (io), 44 (io), 45 (io), 46 (io), 47 (io), 48 (io), 49 (io), 50 (io)
part F pins: 51 (io), 52 (io), 53 (io), 54 (io), 55 (io), 56 (io), 57 (io), 58 (io), 59 (io), 60 (io)
part G pins: 61 (io), 62 (io), 63 (io), 64 (io), 65 (io), 66 (io), 67 (io), 68 (io), 69 (io), 70 (io)
part H pins: 71 (io), 72 (io), 73 (io), 74 (io), 75 (io), 76 (io), 77 (io), 78 (io), 79 (io), 80 (io)
part I pins: 81 (io), 82 (io), 83 (io), 84 (io), 85 (io), 86 (io), 87 (io), 88 (io), 89 (io), 90 (io)
part J pins: 91 (io), 92 (io), 93 (io), 94 (io), 95 (io), 96 (io), 97 (io), 98 (io), 99 (io), 100 (io)
part K pins: 101 (io), 102 (io), 103 (io), 104 (io), 105 (io), 106 (io), 107 (io), 108 (io), 109 (io), 110 (io)
part L pins: 111 (io), 112 (io), 113 (io), 114 (io), 115 (io), 116 (io), 117 (io), 118 (io), 119 (io), 120 (io)
part M pins: 121 (io), 122 (io), 123 (io), 124 (io), 125 (io), 126 (io), 127 (io), 128 (io), 129 (io), 130 (io)
part N pins: 131 (io), 132 (io), 133 (io), 134 (io), 135 (io), 136 (io), 137 (io), 138 (io), 139 (io), 140 (io)
part O pins: 141 (io), 142 (io), 143 (io), 144 (io), 145 (io), 146 (io), 147 (io), 148 (io), 149 (io), 150 (io)
part P pins: 151 (io), 152 (io), 153 (io), 154 (io), 155 (io), 156 (io), 157 (io), 158 (io), 159 (io), 160 (io)
part Q pins: 161 (io), 162 (io), 163 (io), 164 (io), 165 (io), 166 (io), 167 (io), 168 (io), 169 (io), 170 (io)
part R pins: 171 (io), 172 (io), 173 (io), 174 (io), 175 (io), 176 (io), 177 (io), 178 (io), 179 (io), 180 (io)
part S pins: 181 (io), 182 (io), 183 (io), 184 (io), 185 (io), 186 (io), 187 (io), 188 (io), 189 (io), 190 (io)
part T pins: 191 (io), 192 (io), 193 (io), 194 (io), 195 (io), 196 (io), 197 (io), 198 (io), 199 (io), 200 (io)
part U pins: 201 191 (io), 202 192 (io), 203 193 (io), 204 194 (io), 205 195 (io), 206 196 (io), 207 197 (io), 208 198 (io), 209 199 (io), 210 200 (io)
part V pins: 211 191 (io), 212 192 (io), 213 193 (io), 214 194 (io), 215 195 (io), 216 196 (io), 217 197 (io), 218 198 (io), 219 199 (io), 220 200 (io)
part W pins: 221 191 (io), 222 192 (io), 223 193 (io), 224 194 (io), 225 195 (io), 226 196 (io), 227 197 (io), 228 198 (io), 229 199 (io), 230 200 (io)
part X pins: 231 191 (io), 232 192 (io), 233 193 (io), 234 194 (io), 235 195 (io), 236 196 (io), 237 197 (io), 238 198 (io), 239 199 (io), 240 200 (io)
part Y pins: 241 191 (io), 242 192 (io), 243 193 (io), 244 194 (io), 245 195 (io), 246 196 (io), 247 197 (io), 248 198 (io), 249 199 (io), 250 200 (io)
part Z pins: 251 191 (io), 252 192 (io), 253 193 (io), 254 194 (io), 255 195 (io), 256 196 (io), 257 197 (io), 258 198 (io), 259 199 (io), 260 200 (io)
part 27 pins: 261 191 (io), 262 192 (io), 263 193 (io), 264 194 (io), 265 195 (io), 266 196 (io), 267 197 (io), 268 198 (io), 269 199 (io), 270 200 (io)
part 28 pins: 271 191 (io), 272 192 (io), 273 193 (io), 274 194 (io), 275 195 (io), 276 196 (io), 277 197 (io), 278 198 (io), 279 199 (io), 280 200 (io)
part 29 pins: 281 191 (io), 282 192 (io), 283 193 (io), 284 194 (io), 285 195 (io), 286 196 (io), 287 197 (io), 288 198 (io), 289 199 (io), 290 200 (io)
part 30 pins: 291 191 (io), 292 192 (io), 293 193 (io), 294 194 (io), 295 195 (io), 296 196 (io), 297 197 (io), 298 198 (io), 299 199 (io), 300 200 (io)

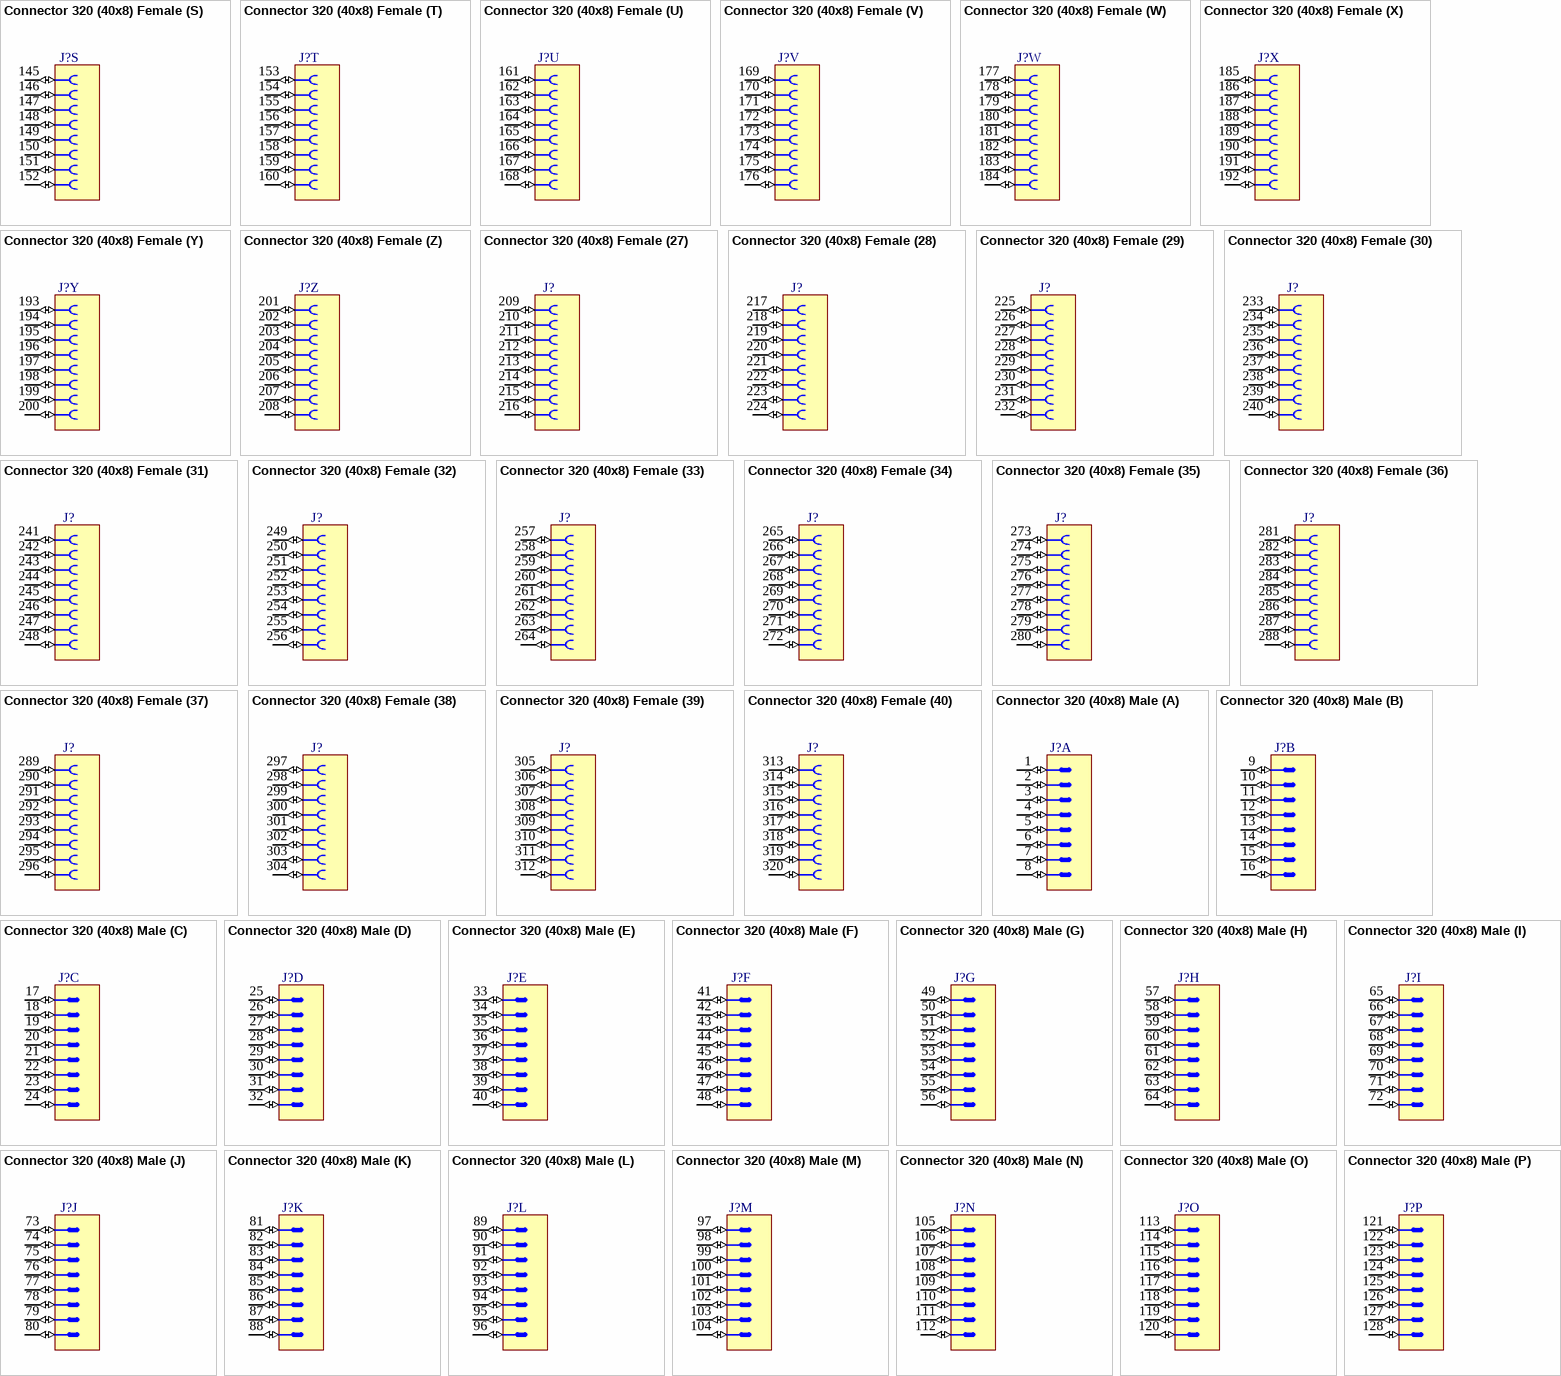
[diagram p39: symbols Connector 320 (40x8) Female to Connector 320 (40x8) Male]

## Connector 320 (40x8) Female
designator J?
320 Contacts (40 Columns x 8 Rows) Female Connector
part A pins: 1 (io), 2 (io), 3 (io), 4 (io), 5 (io), 6 (io), 7 (io), 8 (io)
part B pins: 9 (io), 10 (io), 11 (io), 12 (io), 13 (io), 14 (io), 15 (io), 16 (io)
part C pins: 17 (io), 18 (io), 19 (io), 20 (io), 21 (io), 22 (io), 23 (io), 24 (io)
part D pins: 25 (io), 26 (io), 27 (io), 28 (io), 29 (io), 30 (io), 31 (io), 32 (io)
part E pins: 33 (io), 34 (io), 35 (io), 36 (io), 37 (io), 38 (io), 39 (io), 40 (io)
part F pins: 41 (io), 42 (io), 43 (io), 44 (io), 45 (io), 46 (io), 47 (io), 48 (io)
part G pins: 49 (io), 50 (io), 51 (io), 52 (io), 53 (io), 54 (io), 55 (io), 56 (io)
part H pins: 57 (io), 58 (io), 59 (io), 60 (io), 61 (io), 62 (io), 63 (io), 64 (io)
part I pins: 65 (io), 66 (io), 67 (io), 68 (io), 69 (io), 70 (io), 71 (io), 72 (io)
part J pins: 73 (io), 74 (io), 75 (io), 76 (io), 77 (io), 78 (io), 79 (io), 80 (io)
part K pins: 81 (io), 82 (io), 83 (io), 84 (io), 85 (io), 86 (io), 87 (io), 88 (io)
part L pins: 89 (io), 90 (io), 91 (io), 92 (io), 93 (io), 94 (io), 95 (io), 96 (io)
part M pins: 97 (io), 98 (io), 99 (io), 100 (io), 101 (io), 102 (io), 103 (io), 104 (io)
part N pins: 105 (io), 106 (io), 107 (io), 108 (io), 109 (io), 110 (io), 111 (io), 112 (io)
part O pins: 113 (io), 114 (io), 115 (io), 116 (io), 117 (io), 118 (io), 119 (io), 120 (io)
part P pins: 121 (io), 122 (io), 123 (io), 124 (io), 125 (io), 126 (io), 127 (io), 128 (io)
part Q pins: 129 (io), 130 (io), 131 (io), 132 (io), 133 (io), 134 (io), 135 (io), 136 (io)
part R pins: 137 (io), 138 (io), 139 (io), 140 (io), 141 (io), 142 (io), 143 (io), 144 (io)
part S pins: 145 (io), 146 (io), 147 (io), 148 (io), 149 (io), 150 (io), 151 (io), 152 (io)
part T pins: 153 (io), 154 (io), 155 (io), 156 (io), 157 (io), 158 (io), 159 (io), 160 (io)
part U pins: 161 (io), 162 (io), 163 (io), 164 (io), 165 (io), 166 (io), 167 (io), 168 (io)
part V pins: 169 (io), 170 (io), 171 (io), 172 (io), 173 (io), 174 (io), 175 (io), 176 (io)
part W pins: 177 (io), 178 (io), 179 (io), 180 (io), 181 (io), 182 (io), 183 (io), 184 (io)
part X pins: 185 (io), 186 (io), 187 (io), 188 (io), 189 (io), 190 (io), 191 (io), 192 (io)
part Y pins: 193 (io), 194 (io), 195 (io), 196 (io), 197 (io), 198 (io), 199 (io), 200 (io)
part Z pins: 201 (io), 202 (io), 203 (io), 204 (io), 205 (io), 206 (io), 207 (io), 208 (io)
part 27 pins: 209 (io), 210 (io), 211 (io), 212 (io), 213 (io), 214 (io), 215 (io), 216 (io)
part 28 pins: 217 (io), 218 (io), 219 (io), 220 (io), 221 (io), 222 (io), 223 (io), 224 (io)
part 29 pins: 225 (io), 226 (io), 227 (io), 228 (io), 229 (io), 230 (io), 231 (io), 232 (io)
part 30 pins: 233 (io), 234 (io), 235 (io), 236 (io), 237 (io), 238 (io), 239 (io), 240 (io)
part 31 pins: 241 (io), 242 (io), 243 (io), 244 (io), 245 (io), 246 (io), 247 (io), 248 (io)
part 32 pins: 249 (io), 250 (io), 251 (io), 252 (io), 253 (io), 254 (io), 255 (io), 256 (io)
part 33 pins: 257 (io), 258 (io), 259 (io), 260 (io), 261 (io), 262 (io), 263 (io), 264 (io)
part 34 pins: 265 (io), 266 (io), 267 (io), 268 (io), 269 (io), 270 (io), 271 (io), 272 (io)
part 35 pins: 273 (io), 274 (io), 275 (io), 276 (io), 277 (io), 278 (io), 279 (io), 280 (io)
part 36 pins: 281 (io), 282 (io), 283 (io), 284 (io), 285 (io), 286 (io), 287 (io), 288 (io)
part 37 pins: 289 (io), 290 (io), 291 (io), 292 (io), 293 (io), 294 (io), 295 (io), 296 (io)
part 38 pins: 297 (io), 298 (io), 299 (io), 300 (io), 301 (io), 302 (io), 303 (io), 304 (io)
part 39 pins: 305 (io), 306 (io), 307 (io), 308 (io), 309 (io), 310 (io), 311 (io), 312 (io)
part 40 pins: 313 (io), 314 (io), 315 (io), 316 (io), 317 (io), 318 (io), 319 (io), 320 (io)

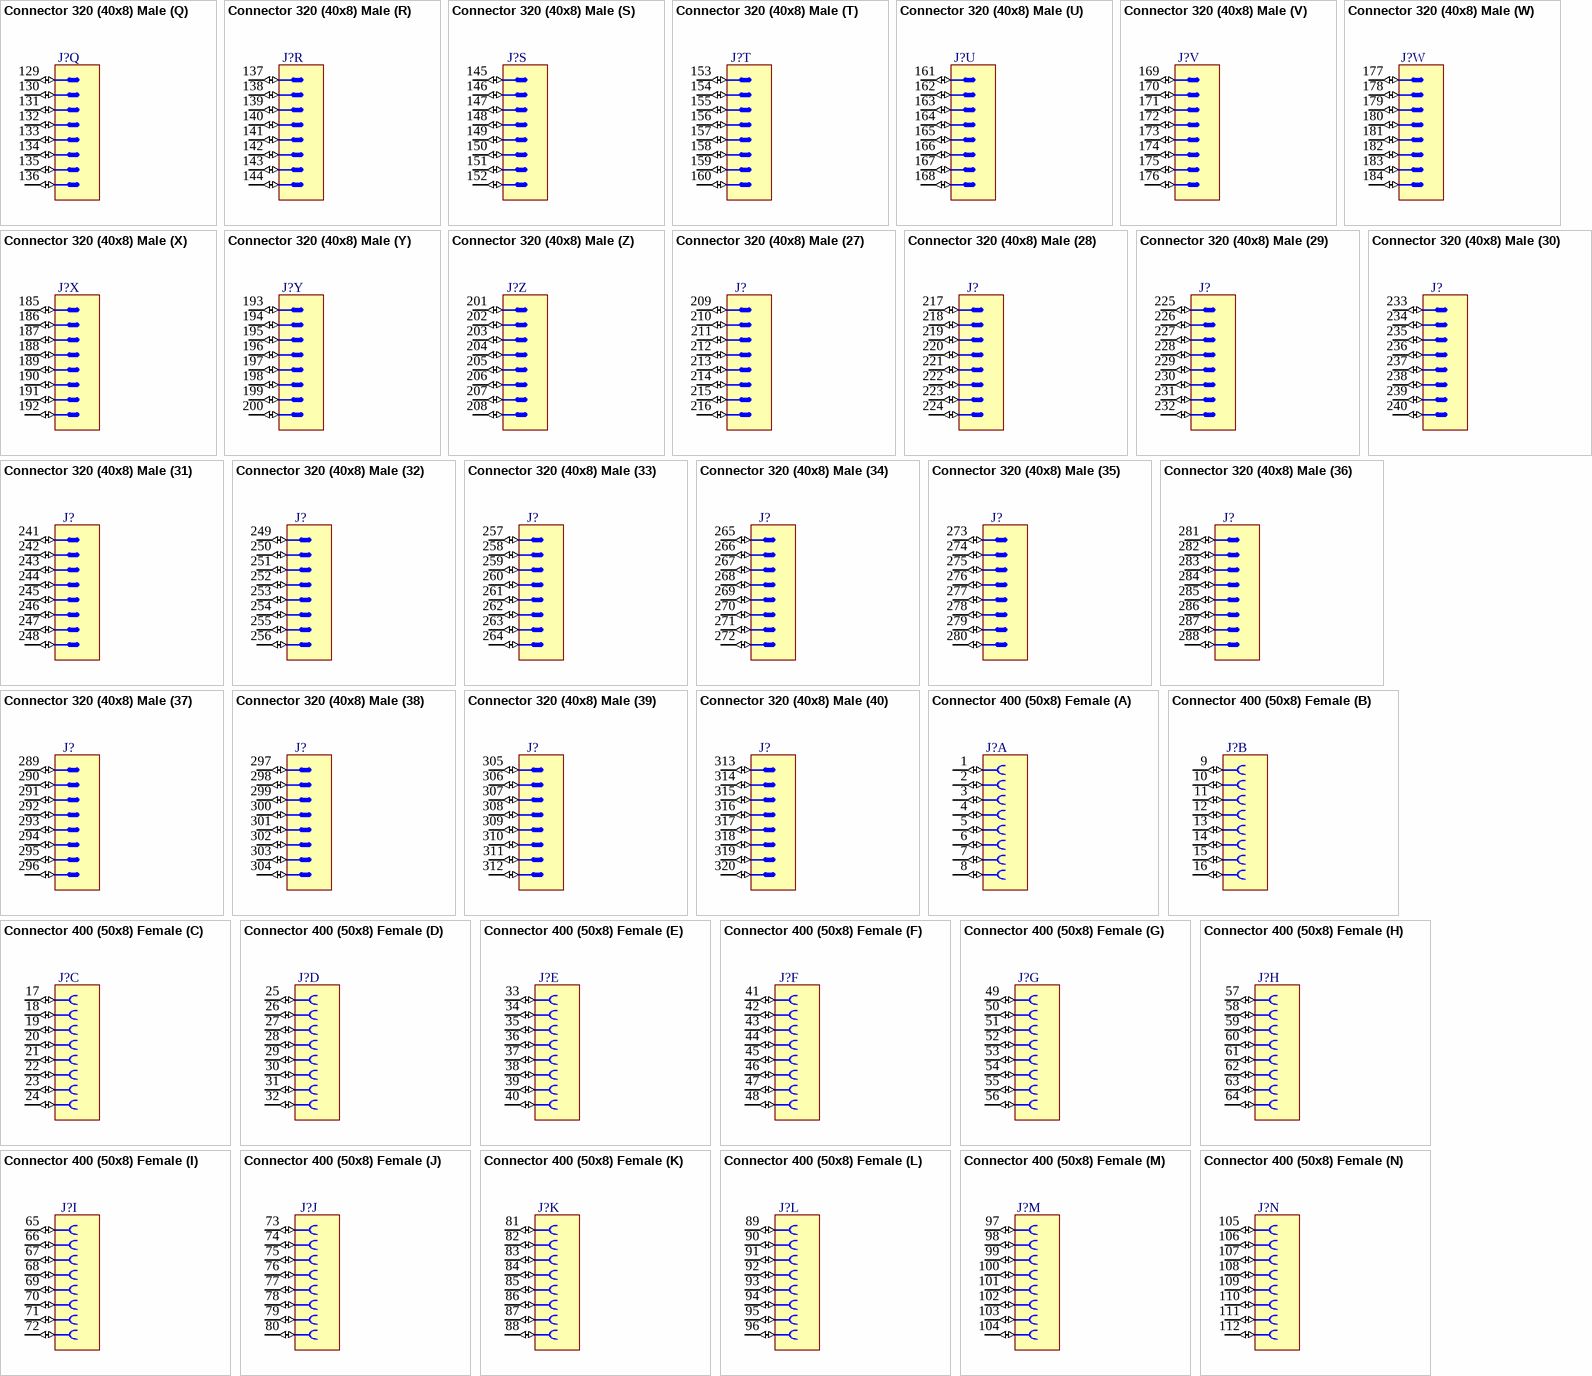
[diagram p40: symbols Connector 320 (40x8) Male to Connector 400 (50x8) Female]

## Connector 320 (40x8) Male
designator J?
320 Contacts (40 Columns x 8 Rows) Male Connector
part A pins: 1 (io), 2 (io), 3 (io), 4 (io), 5 (io), 6 (io), 7 (io), 8 (io)
part B pins: 9 (io), 10 (io), 11 (io), 12 (io), 13 (io), 14 (io), 15 (io), 16 (io)
part C pins: 17 (io), 18 (io), 19 (io), 20 (io), 21 (io), 22 (io), 23 (io), 24 (io)
part D pins: 25 (io), 26 (io), 27 (io), 28 (io), 29 (io), 30 (io), 31 (io), 32 (io)
part E pins: 33 (io), 34 (io), 35 (io), 36 (io), 37 (io), 38 (io), 39 (io), 40 (io)
part F pins: 41 (io), 42 (io), 43 (io), 44 (io), 45 (io), 46 (io), 47 (io), 48 (io)
part G pins: 49 (io), 50 (io), 51 (io), 52 (io), 53 (io), 54 (io), 55 (io), 56 (io)
part H pins: 57 (io), 58 (io), 59 (io), 60 (io), 61 (io), 62 (io), 63 (io), 64 (io)
part I pins: 65 (io), 66 (io), 67 (io), 68 (io), 69 (io), 70 (io), 71 (io), 72 (io)
part J pins: 73 (io), 74 (io), 75 (io), 76 (io), 77 (io), 78 (io), 79 (io), 80 (io)
part K pins: 81 (io), 82 (io), 83 (io), 84 (io), 85 (io), 86 (io), 87 (io), 88 (io)
part L pins: 89 (io), 90 (io), 91 (io), 92 (io), 93 (io), 94 (io), 95 (io), 96 (io)
part M pins: 97 (io), 98 (io), 99 (io), 100 (io), 101 (io), 102 (io), 103 (io), 104 (io)
part N pins: 105 (io), 106 (io), 107 (io), 108 (io), 109 (io), 110 (io), 111 (io), 112 (io)
part O pins: 113 (io), 114 (io), 115 (io), 116 (io), 117 (io), 118 (io), 119 (io), 120 (io)
part P pins: 121 (io), 122 (io), 123 (io), 124 (io), 125 (io), 126 (io), 127 (io), 128 (io)
part Q pins: 129 (io), 130 (io), 131 (io), 132 (io), 133 (io), 134 (io), 135 (io), 136 (io)
part R pins: 137 (io), 138 (io), 139 (io), 140 (io), 141 (io), 142 (io), 143 (io), 144 (io)
part S pins: 145 (io), 146 (io), 147 (io), 148 (io), 149 (io), 150 (io), 151 (io), 152 (io)
part T pins: 153 (io), 154 (io), 155 (io), 156 (io), 157 (io), 158 (io), 159 (io), 160 (io)
part U pins: 161 (io), 162 (io), 163 (io), 164 (io), 165 (io), 166 (io), 167 (io), 168 (io)
part V pins: 169 (io), 170 (io), 171 (io), 172 (io), 173 (io), 174 (io), 175 (io), 176 (io)
part W pins: 177 (io), 178 (io), 179 (io), 180 (io), 181 (io), 182 (io), 183 (io), 184 (io)
part X pins: 185 (io), 186 (io), 187 (io), 188 (io), 189 (io), 190 (io), 191 (io), 192 (io)
part Y pins: 193 (io), 194 (io), 195 (io), 196 (io), 197 (io), 198 (io), 199 (io), 200 (io)
part Z pins: 201 (io), 202 (io), 203 (io), 204 (io), 205 (io), 206 (io), 207 (io), 208 (io)
part 27 pins: 209 (io), 210 (io), 211 (io), 212 (io), 213 (io), 214 (io), 215 (io), 216 (io)
part 28 pins: 217 (io), 218 (io), 219 (io), 220 (io), 221 (io), 222 (io), 223 (io), 224 (io)
part 29 pins: 225 (io), 226 (io), 227 (io), 228 (io), 229 (io), 230 (io), 231 (io), 232 (io)
part 30 pins: 233 (io), 234 (io), 235 (io), 236 (io), 237 (io), 238 (io), 239 (io), 240 (io)
part 31 pins: 241 (io), 242 (io), 243 (io), 244 (io), 245 (io), 246 (io), 247 (io), 248 (io)
part 32 pins: 249 (io), 250 (io), 251 (io), 252 (io), 253 (io), 254 (io), 255 (io), 256 (io)
part 33 pins: 257 (io), 258 (io), 259 (io), 260 (io), 261 (io), 262 (io), 263 (io), 264 (io)
part 34 pins: 265 (io), 266 (io), 267 (io), 268 (io), 269 (io), 270 (io), 271 (io), 272 (io)
part 35 pins: 273 (io), 274 (io), 275 (io), 276 (io), 277 (io), 278 (io), 279 (io), 280 (io)
part 36 pins: 281 (io), 282 (io), 283 (io), 284 (io), 285 (io), 286 (io), 287 (io), 288 (io)
part 37 pins: 289 (io), 290 (io), 291 (io), 292 (io), 293 (io), 294 (io), 295 (io), 296 (io)
part 38 pins: 297 (io), 298 (io), 299 (io), 300 (io), 301 (io), 302 (io), 303 (io), 304 (io)
part 39 pins: 305 (io), 306 (io), 307 (io), 308 (io), 309 (io), 310 (io), 311 (io), 312 (io)
part 40 pins: 313 (io), 314 (io), 315 (io), 316 (io), 317 (io), 318 (io), 319 (io), 320 (io)

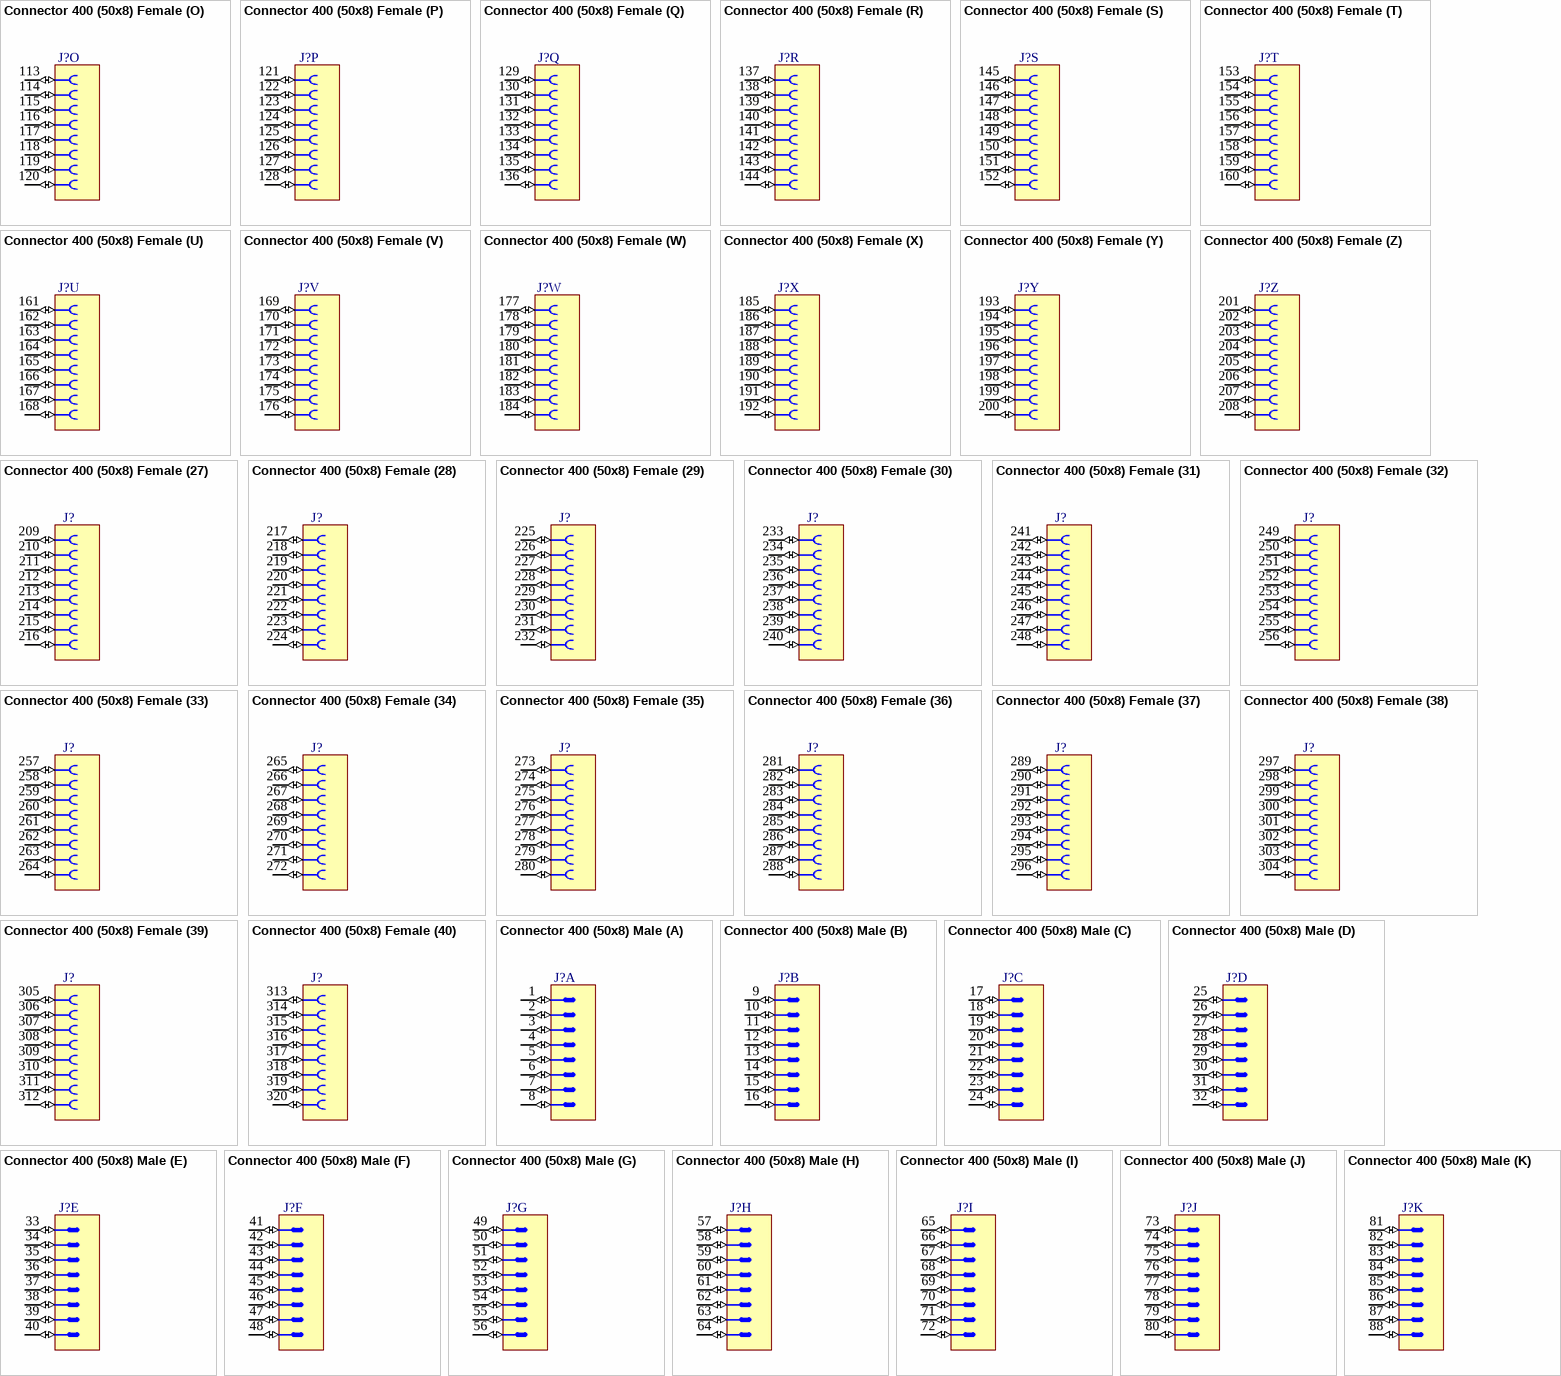
[diagram p41: symbols Connector 400 (50x8) Female to Connector 400 (50x8) Male]

## Connector 400 (50x8) Female
designator J?
400 Contacts (50 Columns x 8 Rows) Female Connector
part A pins: 1 (io), 2 (io), 3 (io), 4 (io), 5 (io), 6 (io), 7 (io), 8 (io)
part B pins: 9 (io), 10 (io), 11 (io), 12 (io), 13 (io), 14 (io), 15 (io), 16 (io)
part C pins: 17 (io), 18 (io), 19 (io), 20 (io), 21 (io), 22 (io), 23 (io), 24 (io)
part D pins: 25 (io), 26 (io), 27 (io), 28 (io), 29 (io), 30 (io), 31 (io), 32 (io)
part E pins: 33 (io), 34 (io), 35 (io), 36 (io), 37 (io), 38 (io), 39 (io), 40 (io)
part F pins: 41 (io), 42 (io), 43 (io), 44 (io), 45 (io), 46 (io), 47 (io), 48 (io)
part G pins: 49 (io), 50 (io), 51 (io), 52 (io), 53 (io), 54 (io), 55 (io), 56 (io)
part H pins: 57 (io), 58 (io), 59 (io), 60 (io), 61 (io), 62 (io), 63 (io), 64 (io)
part I pins: 65 (io), 66 (io), 67 (io), 68 (io), 69 (io), 70 (io), 71 (io), 72 (io)
part J pins: 73 (io), 74 (io), 75 (io), 76 (io), 77 (io), 78 (io), 79 (io), 80 (io)
part K pins: 81 (io), 82 (io), 83 (io), 84 (io), 85 (io), 86 (io), 87 (io), 88 (io)
part L pins: 89 (io), 90 (io), 91 (io), 92 (io), 93 (io), 94 (io), 95 (io), 96 (io)
part M pins: 97 (io), 98 (io), 99 (io), 100 (io), 101 (io), 102 (io), 103 (io), 104 (io)
part N pins: 105 (io), 106 (io), 107 (io), 108 (io), 109 (io), 110 (io), 111 (io), 112 (io)
part O pins: 113 (io), 114 (io), 115 (io), 116 (io), 117 (io), 118 (io), 119 (io), 120 (io)
part P pins: 121 (io), 122 (io), 123 (io), 124 (io), 125 (io), 126 (io), 127 (io), 128 (io)
part Q pins: 129 (io), 130 (io), 131 (io), 132 (io), 133 (io), 134 (io), 135 (io), 136 (io)
part R pins: 137 (io), 138 (io), 139 (io), 140 (io), 141 (io), 142 (io), 143 (io), 144 (io)
part S pins: 145 (io), 146 (io), 147 (io), 148 (io), 149 (io), 150 (io), 151 (io), 152 (io)
part T pins: 153 (io), 154 (io), 155 (io), 156 (io), 157 (io), 158 (io), 159 (io), 160 (io)
part U pins: 161 (io), 162 (io), 163 (io), 164 (io), 165 (io), 166 (io), 167 (io), 168 (io)
part V pins: 169 (io), 170 (io), 171 (io), 172 (io), 173 (io), 174 (io), 175 (io), 176 (io)
part W pins: 177 (io), 178 (io), 179 (io), 180 (io), 181 (io), 182 (io), 183 (io), 184 (io)
part X pins: 185 (io), 186 (io), 187 (io), 188 (io), 189 (io), 190 (io), 191 (io), 192 (io)
part Y pins: 193 (io), 194 (io), 195 (io), 196 (io), 197 (io), 198 (io), 199 (io), 200 (io)
part Z pins: 201 (io), 202 (io), 203 (io), 204 (io), 205 (io), 206 (io), 207 (io), 208 (io)
part 27 pins: 209 (io), 210 (io), 211 (io), 212 (io), 213 (io), 214 (io), 215 (io), 216 (io)
part 28 pins: 217 (io), 218 (io), 219 (io), 220 (io), 221 (io), 222 (io), 223 (io), 224 (io)
part 29 pins: 225 (io), 226 (io), 227 (io), 228 (io), 229 (io), 230 (io), 231 (io), 232 (io)
part 30 pins: 233 (io), 234 (io), 235 (io), 236 (io), 237 (io), 238 (io), 239 (io), 240 (io)
part 31 pins: 241 (io), 242 (io), 243 (io), 244 (io), 245 (io), 246 (io), 247 (io), 248 (io)
part 32 pins: 249 (io), 250 (io), 251 (io), 252 (io), 253 (io), 254 (io), 255 (io), 256 (io)
part 33 pins: 257 (io), 258 (io), 259 (io), 260 (io), 261 (io), 262 (io), 263 (io), 264 (io)
part 34 pins: 265 (io), 266 (io), 267 (io), 268 (io), 269 (io), 270 (io), 271 (io), 272 (io)
part 35 pins: 273 (io), 274 (io), 275 (io), 276 (io), 277 (io), 278 (io), 279 (io), 280 (io)
part 36 pins: 281 (io), 282 (io), 283 (io), 284 (io), 285 (io), 286 (io), 287 (io), 288 (io)
part 37 pins: 289 (io), 290 (io), 291 (io), 292 (io), 293 (io), 294 (io), 295 (io), 296 (io)
part 38 pins: 297 (io), 298 (io), 299 (io), 300 (io), 301 (io), 302 (io), 303 (io), 304 (io)
part 39 pins: 305 (io), 306 (io), 307 (io), 308 (io), 309 (io), 310 (io), 311 (io), 312 (io)
part 40 pins: 313 (io), 314 (io), 315 (io), 316 (io), 317 (io), 318 (io), 319 (io), 320 (io)
part 41 pins: 321 (io), 322 (io), 323 (io), 324 (io), 325 (io), 326 (io), 327 (io), 328 (io)
part 42 pins: 329 (io), 330 (io), 331 (io), 332 (io), 333 (io), 334 (io), 335 (io), 336 (io)
part 43 pins: 337 (io), 338 (io), 339 (io), 340 (io), 341 (io), 342 (io), 343 (io), 344 (io)
part 44 pins: 345 (io), 346 (io), 347 (io), 348 (io), 349 (io), 350 (io), 351 (io), 352 (io)
part 45 pins: 353 (io), 354 (io), 355 (io), 356 (io), 357 (io), 358 (io), 359 (io), 360 (io)
part 46 pins: 361 (io), 362 (io), 363 (io), 364 (io), 365 (io), 366 (io), 367 (io), 368 (io)
part 47 pins: 369 (io), 370 (io), 371 (io), 372 (io), 373 (io), 374 (io), 375 (io), 376 (io)
part 48 pins: 377 (io), 378 (io), 379 (io), 380 (io), 381 (io), 382 (io), 383 (io), 384 (io)
part 49 pins: 385 (io), 386 (io), 387 (io), 388 (io), 389 (io), 390 (io), 391 (io), 392 (io)
part 50 pins: 393 (io), 394 (io), 395 (io), 396 (io), 397 (io), 398 (io), 399 (io), 400 (io)

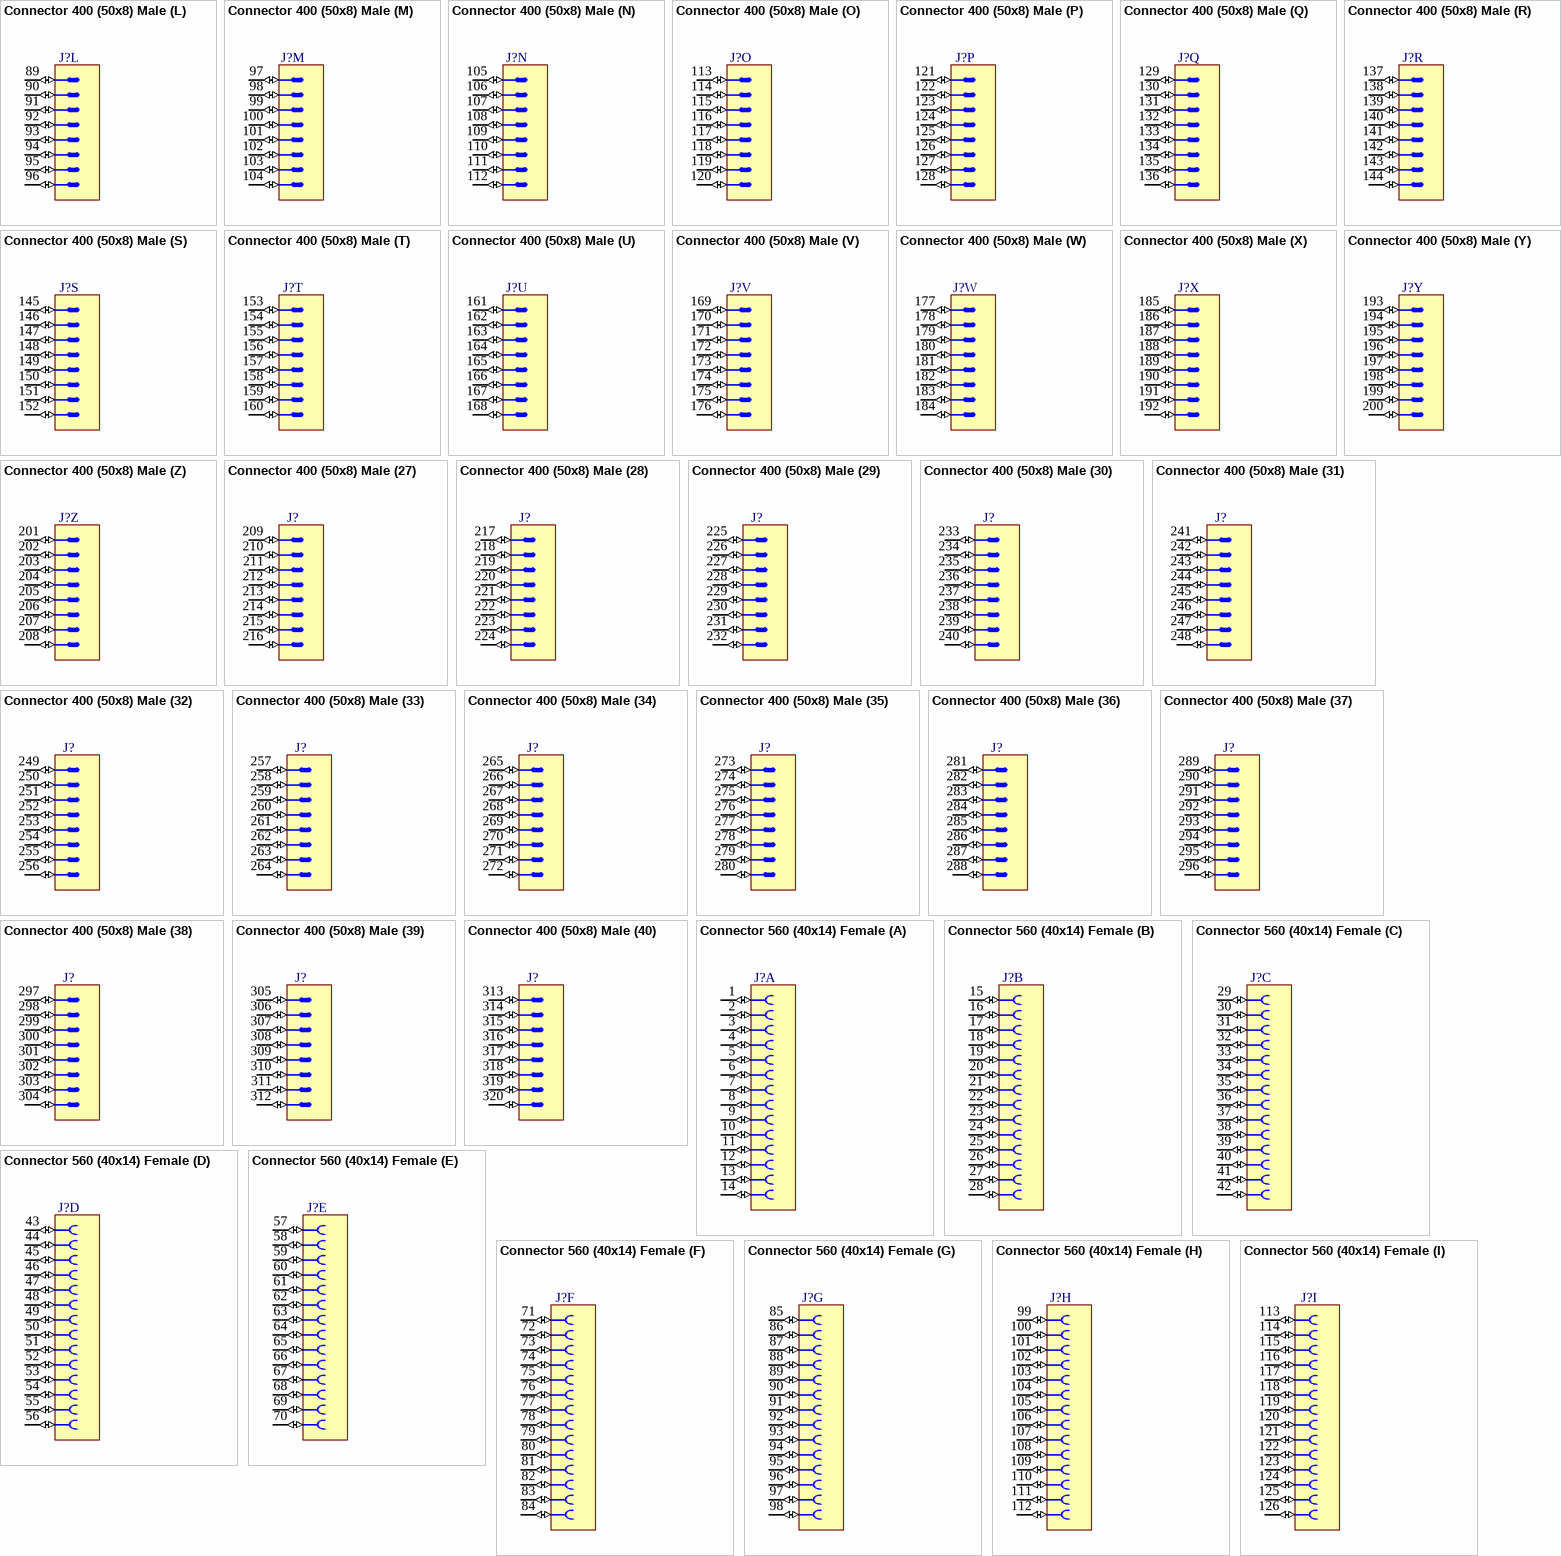
[diagram p42: symbols Connector 400 (50x8) Male to Connector 560 (40x14) Female]

## Connector 400 (50x8) Male
designator J?
400 Contacts (50 Columns x 8 Rows) Male Connector
part A pins: 1 (io), 2 (io), 3 (io), 4 (io), 5 (io), 6 (io), 7 (io), 8 (io)
part B pins: 9 (io), 10 (io), 11 (io), 12 (io), 13 (io), 14 (io), 15 (io), 16 (io)
part C pins: 17 (io), 18 (io), 19 (io), 20 (io), 21 (io), 22 (io), 23 (io), 24 (io)
part D pins: 25 (io), 26 (io), 27 (io), 28 (io), 29 (io), 30 (io), 31 (io), 32 (io)
part E pins: 33 (io), 34 (io), 35 (io), 36 (io), 37 (io), 38 (io), 39 (io), 40 (io)
part F pins: 41 (io), 42 (io), 43 (io), 44 (io), 45 (io), 46 (io), 47 (io), 48 (io)
part G pins: 49 (io), 50 (io), 51 (io), 52 (io), 53 (io), 54 (io), 55 (io), 56 (io)
part H pins: 57 (io), 58 (io), 59 (io), 60 (io), 61 (io), 62 (io), 63 (io), 64 (io)
part I pins: 65 (io), 66 (io), 67 (io), 68 (io), 69 (io), 70 (io), 71 (io), 72 (io)
part J pins: 73 (io), 74 (io), 75 (io), 76 (io), 77 (io), 78 (io), 79 (io), 80 (io)
part K pins: 81 (io), 82 (io), 83 (io), 84 (io), 85 (io), 86 (io), 87 (io), 88 (io)
part L pins: 89 (io), 90 (io), 91 (io), 92 (io), 93 (io), 94 (io), 95 (io), 96 (io)
part M pins: 97 (io), 98 (io), 99 (io), 100 (io), 101 (io), 102 (io), 103 (io), 104 (io)
part N pins: 105 (io), 106 (io), 107 (io), 108 (io), 109 (io), 110 (io), 111 (io), 112 (io)
part O pins: 113 (io), 114 (io), 115 (io), 116 (io), 117 (io), 118 (io), 119 (io), 120 (io)
part P pins: 121 (io), 122 (io), 123 (io), 124 (io), 125 (io), 126 (io), 127 (io), 128 (io)
part Q pins: 129 (io), 130 (io), 131 (io), 132 (io), 133 (io), 134 (io), 135 (io), 136 (io)
part R pins: 137 (io), 138 (io), 139 (io), 140 (io), 141 (io), 142 (io), 143 (io), 144 (io)
part S pins: 145 (io), 146 (io), 147 (io), 148 (io), 149 (io), 150 (io), 151 (io), 152 (io)
part T pins: 153 (io), 154 (io), 155 (io), 156 (io), 157 (io), 158 (io), 159 (io), 160 (io)
part U pins: 161 (io), 162 (io), 163 (io), 164 (io), 165 (io), 166 (io), 167 (io), 168 (io)
part V pins: 169 (io), 170 (io), 171 (io), 172 (io), 173 (io), 174 (io), 175 (io), 176 (io)
part W pins: 177 (io), 178 (io), 179 (io), 180 (io), 181 (io), 182 (io), 183 (io), 184 (io)
part X pins: 185 (io), 186 (io), 187 (io), 188 (io), 189 (io), 190 (io), 191 (io), 192 (io)
part Y pins: 193 (io), 194 (io), 195 (io), 196 (io), 197 (io), 198 (io), 199 (io), 200 (io)
part Z pins: 201 (io), 202 (io), 203 (io), 204 (io), 205 (io), 206 (io), 207 (io), 208 (io)
part 27 pins: 209 (io), 210 (io), 211 (io), 212 (io), 213 (io), 214 (io), 215 (io), 216 (io)
part 28 pins: 217 (io), 218 (io), 219 (io), 220 (io), 221 (io), 222 (io), 223 (io), 224 (io)
part 29 pins: 225 (io), 226 (io), 227 (io), 228 (io), 229 (io), 230 (io), 231 (io), 232 (io)
part 30 pins: 233 (io), 234 (io), 235 (io), 236 (io), 237 (io), 238 (io), 239 (io), 240 (io)
part 31 pins: 241 (io), 242 (io), 243 (io), 244 (io), 245 (io), 246 (io), 247 (io), 248 (io)
part 32 pins: 249 (io), 250 (io), 251 (io), 252 (io), 253 (io), 254 (io), 255 (io), 256 (io)
part 33 pins: 257 (io), 258 (io), 259 (io), 260 (io), 261 (io), 262 (io), 263 (io), 264 (io)
part 34 pins: 265 (io), 266 (io), 267 (io), 268 (io), 269 (io), 270 (io), 271 (io), 272 (io)
part 35 pins: 273 (io), 274 (io), 275 (io), 276 (io), 277 (io), 278 (io), 279 (io), 280 (io)
part 36 pins: 281 (io), 282 (io), 283 (io), 284 (io), 285 (io), 286 (io), 287 (io), 288 (io)
part 37 pins: 289 (io), 290 (io), 291 (io), 292 (io), 293 (io), 294 (io), 295 (io), 296 (io)
part 38 pins: 297 (io), 298 (io), 299 (io), 300 (io), 301 (io), 302 (io), 303 (io), 304 (io)
part 39 pins: 305 (io), 306 (io), 307 (io), 308 (io), 309 (io), 310 (io), 311 (io), 312 (io)
part 40 pins: 313 (io), 314 (io), 315 (io), 316 (io), 317 (io), 318 (io), 319 (io), 320 (io)
part 41 pins: 321 (io), 322 (io), 323 (io), 324 (io), 325 (io), 326 (io), 327 (io), 328 (io)
part 42 pins: 329 (io), 330 (io), 331 (io), 332 (io), 333 (io), 334 (io), 335 (io), 336 (io)
part 43 pins: 337 (io), 338 (io), 339 (io), 340 (io), 341 (io), 342 (io), 343 (io), 344 (io)
part 44 pins: 345 (io), 346 (io), 347 (io), 348 (io), 349 (io), 350 (io), 351 (io), 352 (io)
part 45 pins: 353 (io), 354 (io), 355 (io), 356 (io), 357 (io), 358 (io), 359 (io), 360 (io)
part 46 pins: 361 (io), 362 (io), 363 (io), 364 (io), 365 (io), 366 (io), 367 (io), 368 (io)
part 47 pins: 369 (io), 370 (io), 371 (io), 372 (io), 373 (io), 374 (io), 375 (io), 376 (io)
part 48 pins: 377 (io), 378 (io), 379 (io), 380 (io), 381 (io), 382 (io), 383 (io), 384 (io)
part 49 pins: 385 (io), 386 (io), 387 (io), 388 (io), 389 (io), 390 (io), 391 (io), 392 (io)
part 50 pins: 393 (io), 394 (io), 395 (io), 396 (io), 397 (io), 398 (io), 399 (io), 400 (io)

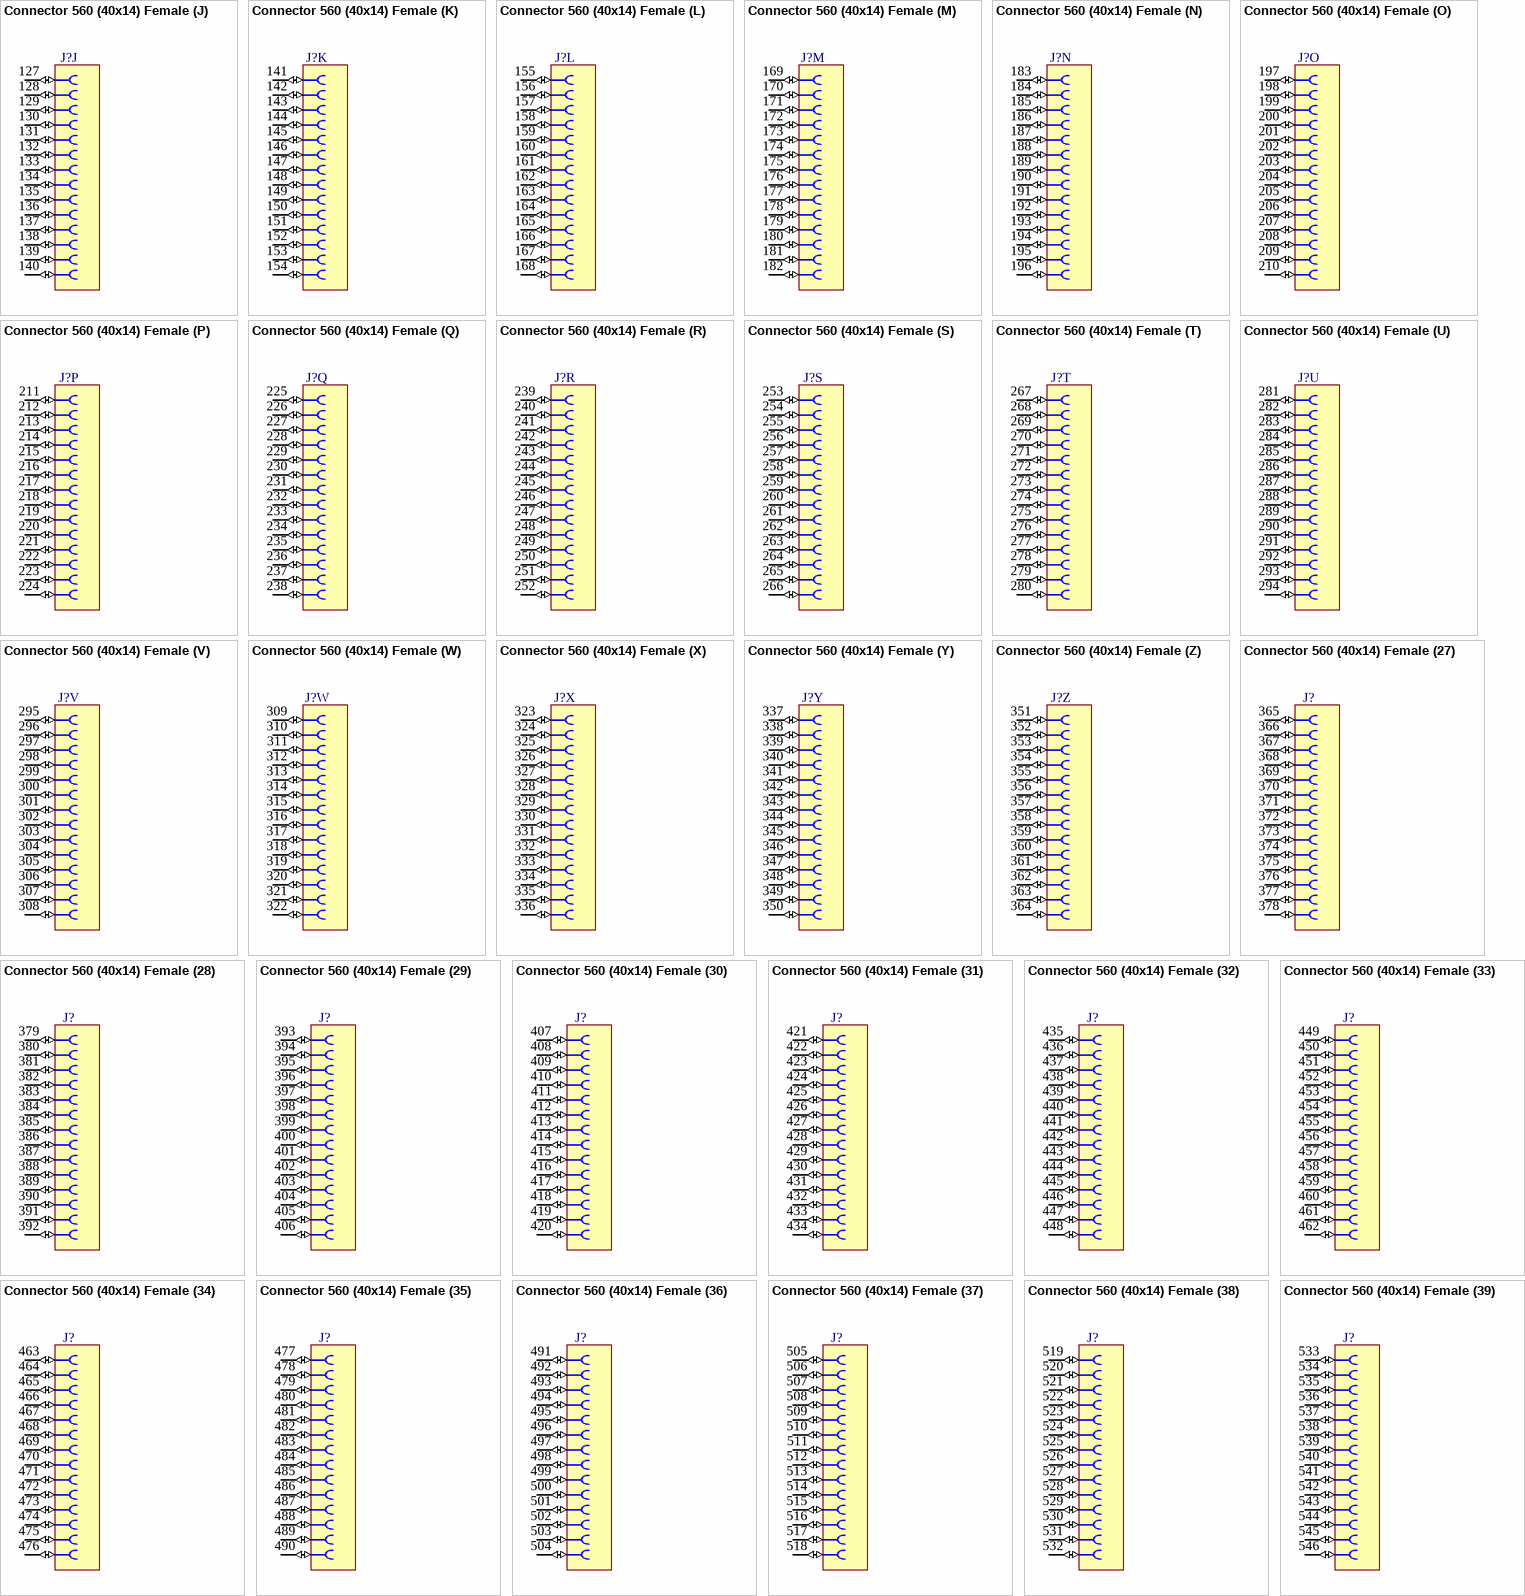
[diagram p43: symbol Connector 560 (40x14) Female]

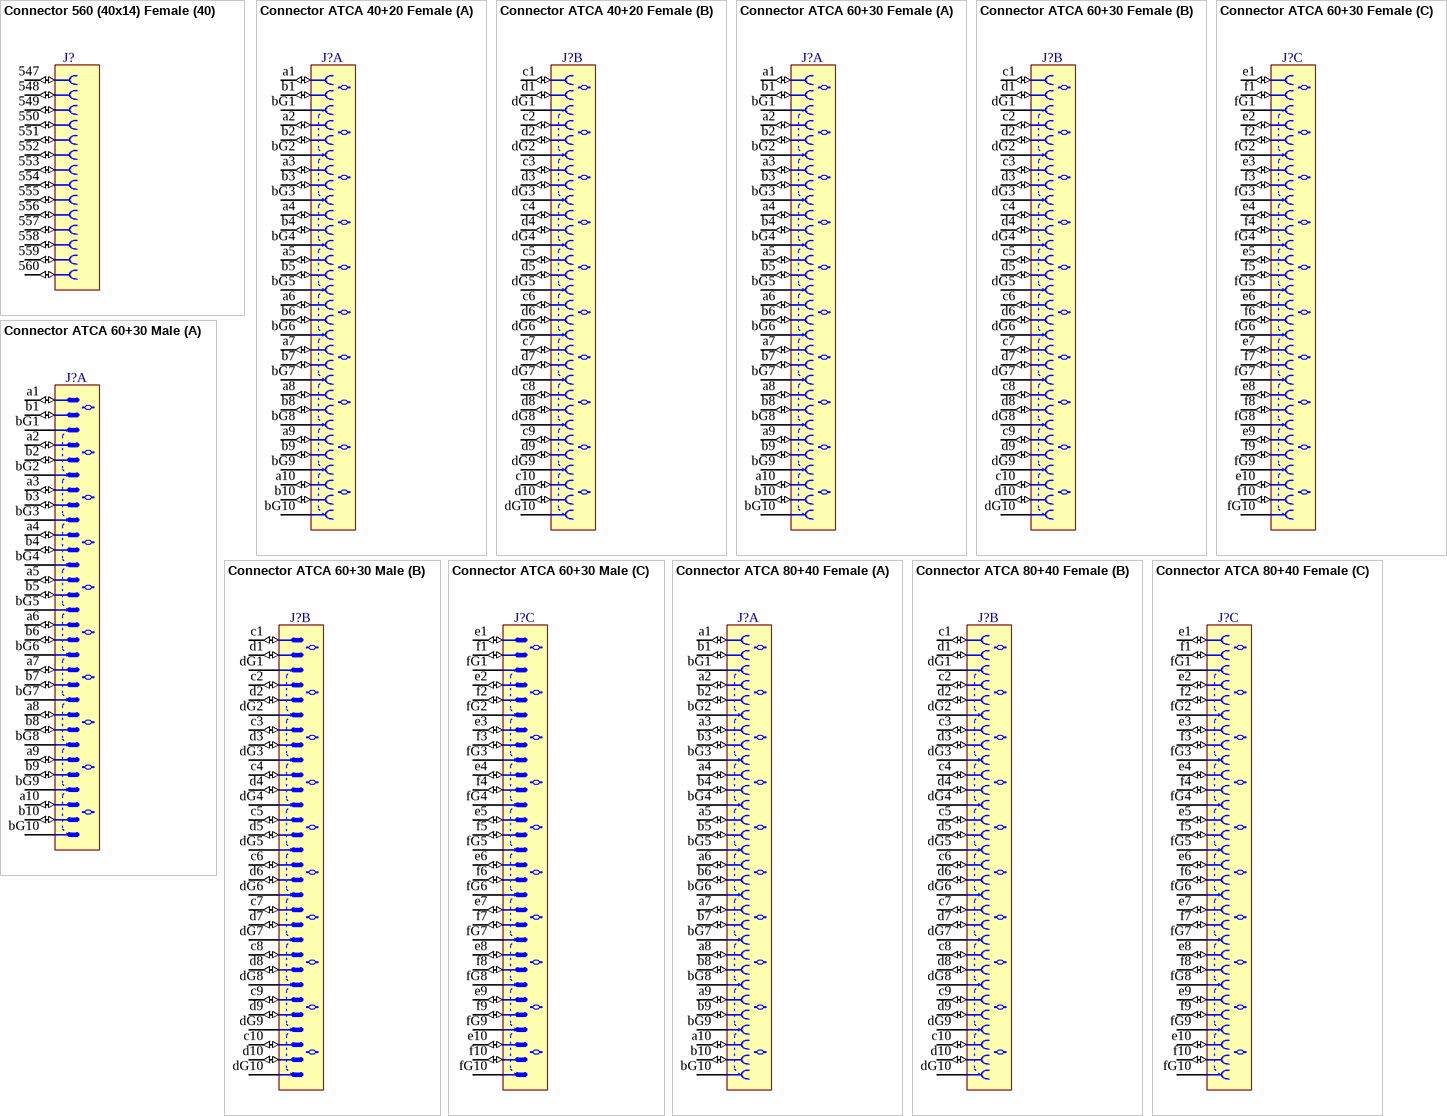
[diagram p44: symbols Connector 560 (40x14) Female to Connector ATCA 80+40 Female]

## Connector 560 (40x14) Female
designator J?
560 Contacts (40 Columns x 14 Rows) Female Connector
part A pins: 1 (io), 2 (io), 3 (io), 4 (io), 5 (io), 6 (io), 7 (io), 8 (io), 9 (io), 10 (io), 11 (io), 12 (io), 13 (io), 14 (io)
part B pins: 15 (io), 16 (io), 17 (io), 18 (io), 19 (io), 20 (io), 21 (io), 22 (io), 23 (io), 24 (io), 25 (io), 26 (io), 27 (io), 28 (io)
part C pins: 29 (io), 30 (io), 31 (io), 32 (io), 33 (io), 34 (io), 35 (io), 36 (io), 37 (io), 38 (io), 39 (io), 40 (io), 41 (io), 42 (io)
part D pins: 43 (io), 44 (io), 45 (io), 46 (io), 47 (io), 48 (io), 49 (io), 50 (io), 51 (io), 52 (io), 53 (io), 54 (io), 55 (io), 56 (io)
part E pins: 57 (io), 58 (io), 59 (io), 60 (io), 61 (io), 62 (io), 63 (io), 64 (io), 65 (io), 66 (io), 67 (io), 68 (io), 69 (io), 70 (io)
part F pins: 71 (io), 72 (io), 73 (io), 74 (io), 75 (io), 76 (io), 77 (io), 78 (io), 79 (io), 80 (io), 81 (io), 82 (io), 83 (io), 84 (io)
part G pins: 85 (io), 86 (io), 87 (io), 88 (io), 89 (io), 90 (io), 91 (io), 92 (io), 93 (io), 94 (io), 95 (io), 96 (io), 97 (io), 98 (io)
part H pins: 99 (io), 100 (io), 101 (io), 102 (io), 103 (io), 104 (io), 105 (io), 106 (io), 107 (io), 108 (io), 109 (io), 110 (io), 111 (io), 112 (io)
part I pins: 113 (io), 114 (io), 115 (io), 116 (io), 117 (io), 118 (io), 119 (io), 120 (io), 121 (io), 122 (io), 123 (io), 124 (io), 125 (io), 126 (io)
part J pins: 127 (io), 128 (io), 129 (io), 130 (io), 131 (io), 132 (io), 133 (io), 134 (io), 135 (io), 136 (io), 137 (io), 138 (io), 139 (io), 140 (io)
part K pins: 141 (io), 142 (io), 143 (io), 144 (io), 145 (io), 146 (io), 147 (io), 148 (io), 149 (io), 150 (io), 151 (io), 152 (io), 153 (io), 154 (io)
part L pins: 155 (io), 156 (io), 157 (io), 158 (io), 159 (io), 160 (io), 161 (io), 162 (io), 163 (io), 164 (io), 165 (io), 166 (io), 167 (io), 168 (io)
part M pins: 169 (io), 170 (io), 171 (io), 172 (io), 173 (io), 174 (io), 175 (io), 176 (io), 177 (io), 178 (io), 179 (io), 180 (io), 181 (io), 182 (io)
part N pins: 183 (io), 184 (io), 185 (io), 186 (io), 187 (io), 188 (io), 189 (io), 190 (io), 191 (io), 192 (io), 193 (io), 194 (io), 195 (io), 196 (io)
part O pins: 197 (io), 198 (io), 199 (io), 200 (io), 201 (io), 202 (io), 203 (io), 204 (io), 205 (io), 206 (io), 207 (io), 208 (io), 209 (io), 210 (io)
part P pins: 211 (io), 212 (io), 213 (io), 214 (io), 215 (io), 216 (io), 217 (io), 218 (io), 219 (io), 220 (io), 221 (io), 222 (io), 223 (io), 224 (io)
part Q pins: 225 (io), 226 (io), 227 (io), 228 (io), 229 (io), 230 (io), 231 (io), 232 (io), 233 (io), 234 (io), 235 (io), 236 (io), 237 (io), 238 (io)
part R pins: 239 (io), 240 (io), 241 (io), 242 (io), 243 (io), 244 (io), 245 (io), 246 (io), 247 (io), 248 (io), 249 (io), 250 (io), 251 (io), 252 (io)
part S pins: 253 (io), 254 (io), 255 (io), 256 (io), 257 (io), 258 (io), 259 (io), 260 (io), 261 (io), 262 (io), 263 (io), 264 (io), 265 (io), 266 (io)
part T pins: 267 (io), 268 (io), 269 (io), 270 (io), 271 (io), 272 (io), 273 (io), 274 (io), 275 (io), 276 (io), 277 (io), 278 (io), 279 (io), 280 (io)
part U pins: 281 (io), 282 (io), 283 (io), 284 (io), 285 (io), 286 (io), 287 (io), 288 (io), 289 (io), 290 (io), 291 (io), 292 (io), 293 (io), 294 (io)
part V pins: 295 (io), 296 (io), 297 (io), 298 (io), 299 (io), 300 (io), 301 (io), 302 (io), 303 (io), 304 (io), 305 (io), 306 (io), 307 (io), 308 (io)
part W pins: 309 (io), 310 (io), 311 (io), 312 (io), 313 (io), 314 (io), 315 (io), 316 (io), 317 (io), 318 (io), 319 (io), 320 (io), 321 (io), 322 (io)
part X pins: 323 (io), 324 (io), 325 (io), 326 (io), 327 (io), 328 (io), 329 (io), 330 (io), 331 (io), 332 (io), 333 (io), 334 (io), 335 (io), 336 (io)
part Y pins: 337 (io), 338 (io), 339 (io), 340 (io), 341 (io), 342 (io), 343 (io), 344 (io), 345 (io), 346 (io), 347 (io), 348 (io), 349 (io), 350 (io)
part Z pins: 351 (io), 352 (io), 353 (io), 354 (io), 355 (io), 356 (io), 357 (io), 358 (io), 359 (io), 360 (io), 361 (io), 362 (io), 363 (io), 364 (io)
part 27 pins: 365 (io), 366 (io), 367 (io), 368 (io), 369 (io), 370 (io), 371 (io), 372 (io), 373 (io), 374 (io), 375 (io), 376 (io), 377 (io), 378 (io)
part 28 pins: 379 (io), 380 (io), 381 (io), 382 (io), 383 (io), 384 (io), 385 (io), 386 (io), 387 (io), 388 (io), 389 (io), 390 (io), 391 (io), 392 (io)
part 29 pins: 393 (io), 394 (io), 395 (io), 396 (io), 397 (io), 398 (io), 399 (io), 400 (io), 401 (io), 402 (io), 403 (io), 404 (io), 405 (io), 406 (io)
part 30 pins: 407 (io), 408 (io), 409 (io), 410 (io), 411 (io), 412 (io), 413 (io), 414 (io), 415 (io), 416 (io), 417 (io), 418 (io), 419 (io), 420 (io)
part 31 pins: 421 (io), 422 (io), 423 (io), 424 (io), 425 (io), 426 (io), 427 (io), 428 (io), 429 (io), 430 (io), 431 (io), 432 (io), 433 (io), 434 (io)
part 32 pins: 435 (io), 436 (io), 437 (io), 438 (io), 439 (io), 440 (io), 441 (io), 442 (io), 443 (io), 444 (io), 445 (io), 446 (io), 447 (io), 448 (io)
part 33 pins: 449 (io), 450 (io), 451 (io), 452 (io), 453 (io), 454 (io), 455 (io), 456 (io), 457 (io), 458 (io), 459 (io), 460 (io), 461 (io), 462 (io)
part 34 pins: 463 (io), 464 (io), 465 (io), 466 (io), 467 (io), 468 (io), 469 (io), 470 (io), 471 (io), 472 (io), 473 (io), 474 (io), 475 (io), 476 (io)
part 35 pins: 477 (io), 478 (io), 479 (io), 480 (io), 481 (io), 482 (io), 483 (io), 484 (io), 485 (io), 486 (io), 487 (io), 488 (io), 489 (io), 490 (io)
part 36 pins: 491 (io), 492 (io), 493 (io), 494 (io), 495 (io), 496 (io), 497 (io), 498 (io), 499 (io), 500 (io), 501 (io), 502 (io), 503 (io), 504 (io)
part 37 pins: 505 (io), 506 (io), 507 (io), 508 (io), 509 (io), 510 (io), 511 (io), 512 (io), 513 (io), 514 (io), 515 (io), 516 (io), 517 (io), 518 (io)
part 38 pins: 519 (io), 520 (io), 521 (io), 522 (io), 523 (io), 524 (io), 525 (io), 526 (io), 527 (io), 528 (io), 529 (io), 530 (io), 531 (io), 532 (io)
part 39 pins: 533 (io), 534 (io), 535 (io), 536 (io), 537 (io), 538 (io), 539 (io), 540 (io), 541 (io), 542 (io), 543 (io), 544 (io), 545 (io), 546 (io)
part 40 pins: 547 (io), 548 (io), 549 (io), 550 (io), 551 (io), 552 (io), 553 (io), 554 (io), 555 (io), 556 (io), 557 (io), 558 (io), 559 (io), 560 (io)

## Connector ATCA 40+20 Female
designator J?
Connector 40 ATCA Female 20 Pairs (40 Signals) + 2x10 Ground
part A pins: a1 (io), a2 (io), a3 (io), a4 (io), a5 (io), a6 (io), a7 (io), a8 (io), a9 (io), a10 (io), b1 (io), b2 (io), b3 (io), b4 (io), b5 (io), b6 (io), b7 (io), b8 (io), b9 (io), b10 (io), bG1 (power), bG2 (power), bG3 (power), bG4 (power), bG5 (power), bG6 (power), bG7 (power), bG8 (power), bG9 (power), bG10 (power)
part B pins: c1 (io), c2 (io), c3 (io), c4 (io), c5 (io), c6 (io), c7 (io), c8 (io), c9 (io), c10 (io), d1 (io), d2 (io), d3 (io), d4 (io), d5 (io), d6 (io), d7 (io), d8 (io), d9 (io), d10 (io), dG1 (power), dG2 (power), dG3 (power), dG4 (power), dG5 (power), dG6 (power), dG7 (power), dG8 (power), dG9 (power), dG10 (power)